# Altium integrated library Cypress Peripheral Bus Interface Controller.IntLib: 40 symbols (part 1 of 3)
Pins are listed as number, name and electrical type; pins without a type are passive.

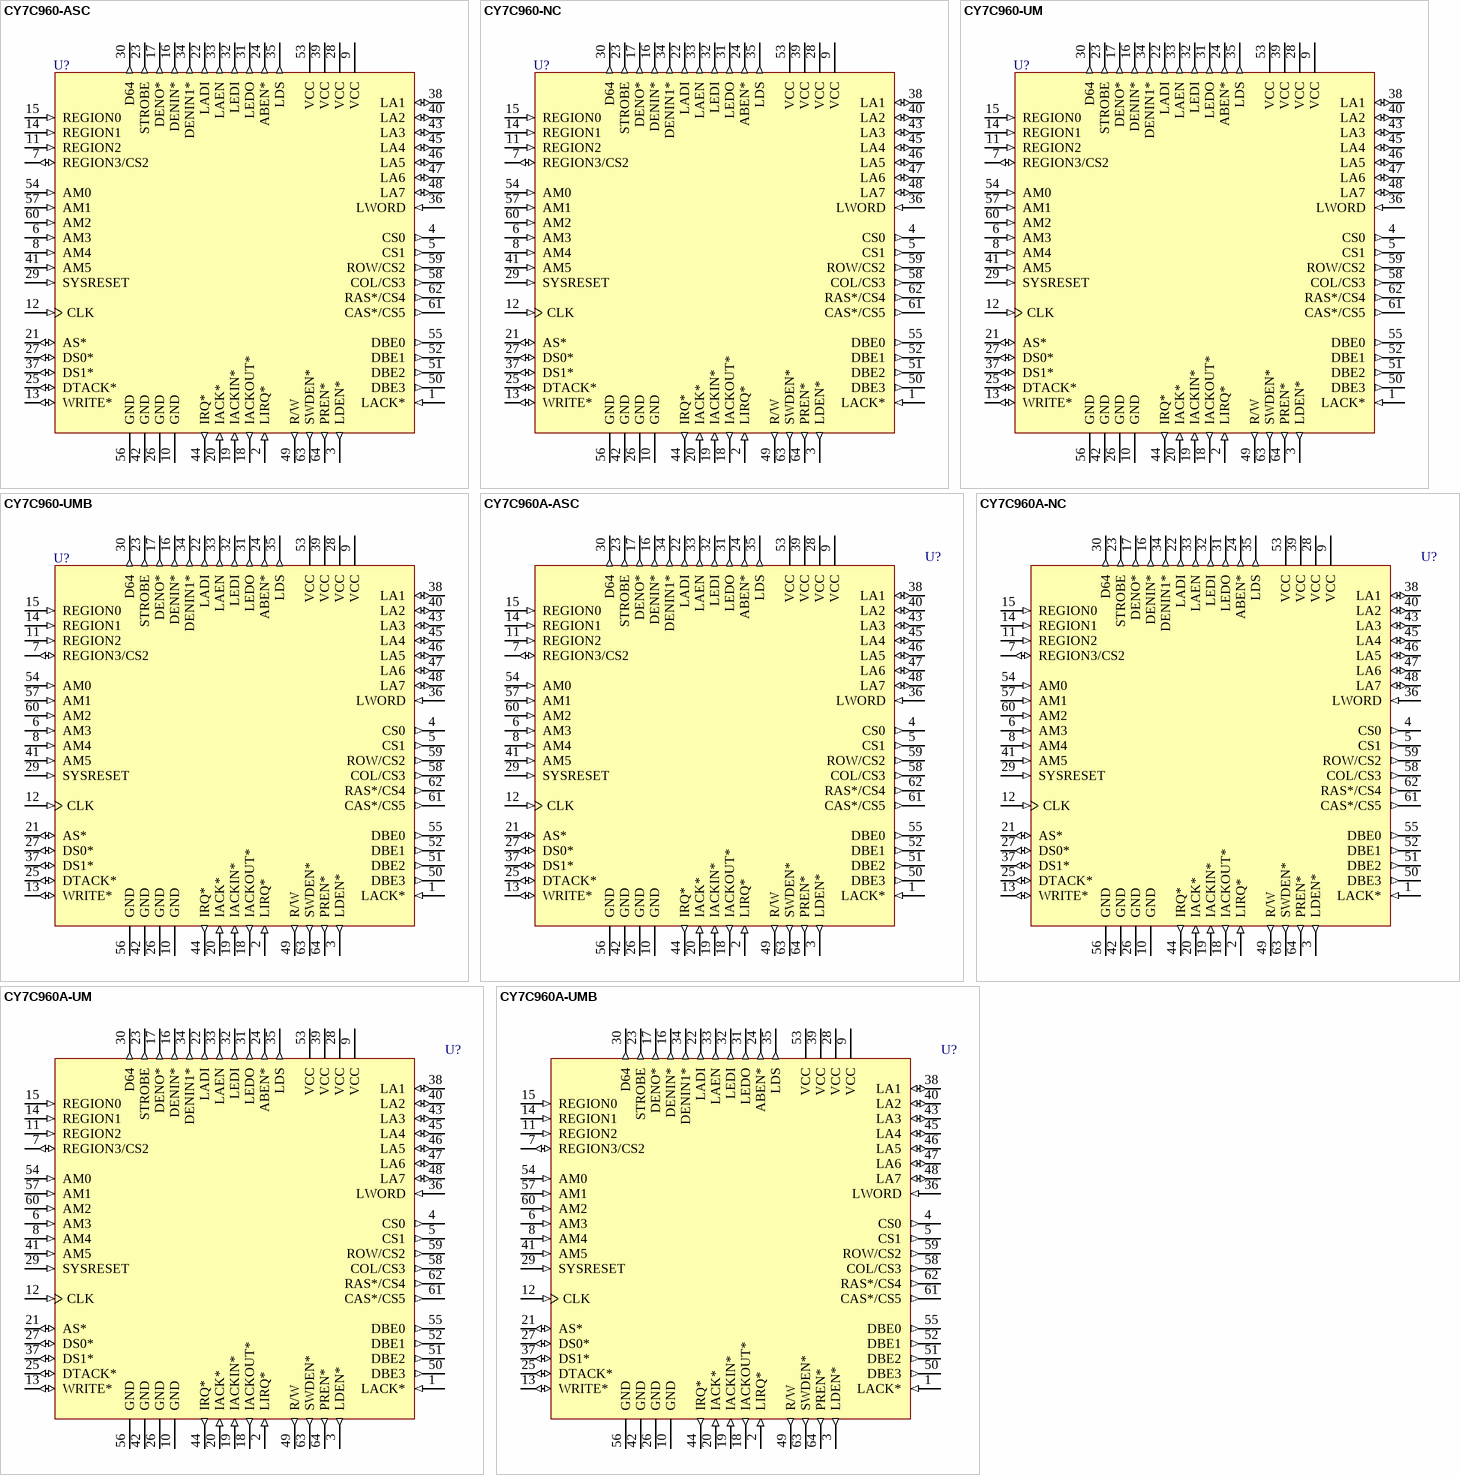
[diagram p0: symbols CY7C960-ASC to CY7C960A-UMB]

## CY7C960-ASC
designator U?
Low Cost VMEbus Interface Controller; Published: 11-Dec-2002; LatestRevisionDate: 13-Apr-2006; LatestRevisionNote: IPC-7351 Footprint Added.; DatasheetVersion: 4-Dec-1997; PackageVersion: Dec-1997; PackageReference: A64; Publisher: Altium Limited; PackageDescription: 64-Pin Thin Quad Flat Pack 0.5 mm Pitch; ComponentLink1Description: Manufacturer Link; ComponentLink1URL: http://www.cypress.com/
footprint A64_N (Thin QFP, 64-Leads, Body 10x10mm, Pitch 0.5mm, IPC Medium Density)
footprint A64_L (Thin QFP, 64-Leads, Body 10x10mm, Pitch 0.5mm, IPC High Density)
footprint A64_M (Thin QFP, 64-Leads, Body 10x10mm, Pitch 0.5mm, IPC Low Density)
3D model CY7C960-A64 (64-Pin Thin Quad Flat Pack 0.5 mm Pitch)
pins: 1 LACK* (in), 2 LIRQ* (in), 3 LDEN* (out), 4 CS0 (out), 5 CS1 (out), 6 AM3 (in), 7 REGION3/CS2 (io), 8 AM4 (in), 9 VCC (power), 10 GND (power), 11 REGION2 (in), 12 CLK (in), 13 WRITE* (io), 14 REGION1 (in), 15 REGION0 (in), 16 DENIN* (out), 17 DENO* (out), 18 IACKOUT* (out), 19 IACKIN* (in), 20 IACK* (in), 21 AS* (io), 22 LADI (out), 23 STROBE (out), 24 ABEN* (out), 25 DTACK* (io), 26 GND (power), 27 DS0* (io), 28 VCC (power), 29 SYSRESET (in), 30 D64 (out), 31 LEDO (out), 32 LEDI (out), 33 LAEN (out), 34 DENIN1* (out), 35 LDS (out), 36 LWORD (in), 37 DS1* (io), 38 LA1 (io), 39 VCC (power), 40 LA2 (io), 41 AM5 (in), 42 GND (power), 43 LA3 (io), 44 IRQ* (out), 45 LA4 (io), 46 LA5 (io), 47 LA6 (io), 48 LA7 (io), 49 R/W (out), 50 DBE3 (out), 51 DBE2 (out), 52 DBE1 (out), 53 VCC (power), 54 AM0 (in), 55 DBE0 (out), 56 GND (power), 57 AM1 (in), 58 COL/CS3 (out), 59 ROW/CS2 (out), 60 AM2 (in), 61 CAS*/CS5 (out), 62 RAS*/CS4 (out), 63 SWDEN* (out), 64 PREN* (out)

## CY7C960-NC
designator U?
Low Cost VMEbus Interface Controller; Published: 11-Dec-2002; LatestRevisionDate: 13-Apr-2006; LatestRevisionNote: IPC-7351 Footprint Added.; DatasheetVersion: 4-Dec-1997; PackageVersion: Dec-1997; PackageReference: N65; Publisher: Altium Limited; PackageDescription: 64-Pin Thin Plastic Quad Flat Pack 0.8 mm Pitch; ComponentLink1Description: Manufacturer Link; ComponentLink1URL: http://www.cypress.com/
footprint N65_N (Thin QFP, 64-Leads, Body 14x14mm, Pitch 0.8mm, IPC Medium Density)
footprint N65_L (Thin QFP, 64-Leads, Body 14x14mm, Pitch 0.8mm, IPC High Density)
footprint N65_M (Thin QFP, 64-Leads, Body 14x14mm, Pitch 0.8mm, IPC Low Density)
3D model CY7C960-N65 (64-Pin Thin Plastic Quad Flat Pack 0.8 mm Pitch)
pins: 1 LACK* (in), 2 LIRQ* (in), 3 LDEN* (out), 4 CS0 (out), 5 CS1 (out), 6 AM3 (in), 7 REGION3/CS2 (io), 8 AM4 (in), 9 VCC (power), 10 GND (power), 11 REGION2 (in), 12 CLK (in), 13 WRITE* (io), 14 REGION1 (in), 15 REGION0 (in), 16 DENIN* (out), 17 DENO* (out), 18 IACKOUT* (out), 19 IACKIN* (in), 20 IACK* (in), 21 AS* (io), 22 LADI (out), 23 STROBE (out), 24 ABEN* (out), 25 DTACK* (io), 26 GND (power), 27 DS0* (io), 28 VCC (power), 29 SYSRESET (in), 30 D64 (out), 31 LEDO (out), 32 LEDI (out), 33 LAEN (out), 34 DENIN1* (out), 35 LDS (out), 36 LWORD (in), 37 DS1* (io), 38 LA1 (io), 39 VCC (power), 40 LA2 (io), 41 AM5 (in), 42 GND (power), 43 LA3 (io), 44 IRQ* (out), 45 LA4 (io), 46 LA5 (io), 47 LA6 (io), 48 LA7 (io), 49 R/W (out), 50 DBE3 (out), 51 DBE2 (out), 52 DBE1 (out), 53 VCC (power), 54 AM0 (in), 55 DBE0 (out), 56 GND (power), 57 AM1 (in), 58 COL/CS3 (out), 59 ROW/CS2 (out), 60 AM2 (in), 61 CAS*/CS5 (out), 62 RAS*/CS4 (out), 63 SWDEN* (out), 64 PREN* (out)

## CY7C960-UM
designator U?
Low Cost VMEbus Interface Controller; Published: 11-Dec-2002; LatestRevisionDate: 13-Apr-2006; LatestRevisionNote: IPC-7351 Footprint Added.; DatasheetVersion: 4-Dec-1997; PackageVersion: Dec-1997; PackageReference: U65; Publisher: Altium Limited; PackageDescription: 64-Pin Ceramic Cavity Up Quad Flat Pack 0.8 mm Pitch; ComponentLink1Description: Manufacturer Link; ComponentLink1URL: http://www.cypress.com/
footprint U65_N (QFP, 64-Leads, Body 14x14mm, Pitch 0.8mm, IPC Medium Density)
footprint U65_L (QFP, 64-Leads, Body 14x14mm, Pitch 0.8mm, IPC High Density)
footprint U65_M (QFP, 64-Leads, Body 14x14mm, Pitch 0.8mm, IPC Low Density)
3D model CY7C960-U65 (64-Pin Ceramic Cavity Up Quad Flat Pack 0.8 mm Pitch)
pins: 1 LACK* (in), 2 LIRQ* (in), 3 LDEN* (out), 4 CS0 (out), 5 CS1 (out), 6 AM3 (in), 7 REGION3/CS2 (io), 8 AM4 (in), 9 VCC (power), 10 GND (power), 11 REGION2 (in), 12 CLK (in), 13 WRITE* (io), 14 REGION1 (in), 15 REGION0 (in), 16 DENIN* (out), 17 DENO* (out), 18 IACKOUT* (out), 19 IACKIN* (in), 20 IACK* (in), 21 AS* (io), 22 LADI (out), 23 STROBE (out), 24 ABEN* (out), 25 DTACK* (io), 26 GND (power), 27 DS0* (io), 28 VCC (power), 29 SYSRESET (in), 30 D64 (out), 31 LEDO (out), 32 LEDI (out), 33 LAEN (out), 34 DENIN1* (out), 35 LDS (out), 36 LWORD (in), 37 DS1* (io), 38 LA1 (io), 39 VCC (power), 40 LA2 (io), 41 AM5 (in), 42 GND (power), 43 LA3 (io), 44 IRQ* (out), 45 LA4 (io), 46 LA5 (io), 47 LA6 (io), 48 LA7 (io), 49 R/W (out), 50 DBE3 (out), 51 DBE2 (out), 52 DBE1 (out), 53 VCC (power), 54 AM0 (in), 55 DBE0 (out), 56 GND (power), 57 AM1 (in), 58 COL/CS3 (out), 59 ROW/CS2 (out), 60 AM2 (in), 61 CAS*/CS5 (out), 62 RAS*/CS4 (out), 63 SWDEN* (out), 64 PREN* (out)

## CY7C960-UMB
designator U?
Low Cost VMEbus Interface Controller; Published: 11-Dec-2002; LatestRevisionDate: 13-Apr-2006; LatestRevisionNote: IPC-7351 Footprint Added.; DatasheetVersion: 4-Dec-1997; PackageVersion: Dec-1997; PackageReference: U65; Publisher: Altium Limited; PackageDescription: 64-Pin Ceramic Cavity Up Quad Flat Pack 0.8 mm Pitch; ComponentLink1Description: Manufacturer Link; ComponentLink1URL: http://www.cypress.com/
footprint U65_N (QFP, 64-Leads, Body 14x14mm, Pitch 0.8mm, IPC Medium Density)
footprint U65_L (QFP, 64-Leads, Body 14x14mm, Pitch 0.8mm, IPC High Density)
footprint U65_M (QFP, 64-Leads, Body 14x14mm, Pitch 0.8mm, IPC Low Density)
3D model CY7C960-U65 (64-Pin Ceramic Cavity Up Quad Flat Pack 0.8 mm Pitch)
pins: 1 LACK* (in), 2 LIRQ* (in), 3 LDEN* (out), 4 CS0 (out), 5 CS1 (out), 6 AM3 (in), 7 REGION3/CS2 (io), 8 AM4 (in), 9 VCC (power), 10 GND (power), 11 REGION2 (in), 12 CLK (in), 13 WRITE* (io), 14 REGION1 (in), 15 REGION0 (in), 16 DENIN* (out), 17 DENO* (out), 18 IACKOUT* (out), 19 IACKIN* (in), 20 IACK* (in), 21 AS* (io), 22 LADI (out), 23 STROBE (out), 24 ABEN* (out), 25 DTACK* (io), 26 GND (power), 27 DS0* (io), 28 VCC (power), 29 SYSRESET (in), 30 D64 (out), 31 LEDO (out), 32 LEDI (out), 33 LAEN (out), 34 DENIN1* (out), 35 LDS (out), 36 LWORD (in), 37 DS1* (io), 38 LA1 (io), 39 VCC (power), 40 LA2 (io), 41 AM5 (in), 42 GND (power), 43 LA3 (io), 44 IRQ* (out), 45 LA4 (io), 46 LA5 (io), 47 LA6 (io), 48 LA7 (io), 49 R/W (out), 50 DBE3 (out), 51 DBE2 (out), 52 DBE1 (out), 53 VCC (power), 54 AM0 (in), 55 DBE0 (out), 56 GND (power), 57 AM1 (in), 58 COL/CS3 (out), 59 ROW/CS2 (out), 60 AM2 (in), 61 CAS*/CS5 (out), 62 RAS*/CS4 (out), 63 SWDEN* (out), 64 PREN* (out)

## CY7C960A-ASC
designator U?
Low Cost VMEbus Interface Controller; Published: 11-Dec-2002; LatestRevisionDate: 13-Apr-2006; LatestRevisionNote: IPC-7351 Footprint Added.; DatasheetVersion: 5-Sep-2000; PackageVersion: Dec-1997; PackageReference: A64; Publisher: Altium Limited; PackageDescription: 64-Pin Thin Quad Flat Pack 0.5 mm Pitch; ComponentLink1Description: Manufacturer Link; ComponentLink1URL: http://www.cypress.com/
footprint A64_N (Thin QFP, 64-Leads, Body 10x10mm, Pitch 0.5mm, IPC Medium Density)
footprint A64_L (Thin QFP, 64-Leads, Body 10x10mm, Pitch 0.5mm, IPC High Density)
footprint A64_M (Thin QFP, 64-Leads, Body 10x10mm, Pitch 0.5mm, IPC Low Density)
3D model CY7C960A-A64 (64-Pin Thin Quad Flat Pack 0.5 mm Pitch)
pins: 1 LACK* (in), 2 LIRQ* (in), 3 LDEN* (out), 4 CS0 (out), 5 CS1 (out), 6 AM3 (in), 7 REGION3/CS2 (io), 8 AM4 (in), 9 VCC (power), 10 GND (power), 11 REGION2 (in), 12 CLK (in), 13 WRITE* (io), 14 REGION1 (in), 15 REGION0 (in), 16 DENIN* (out), 17 DENO* (out), 18 IACKOUT* (out), 19 IACKIN* (in), 20 IACK* (in), 21 AS* (io), 22 LADI (out), 23 STROBE (out), 24 ABEN* (out), 25 DTACK* (io), 26 GND (power), 27 DS0* (io), 28 VCC (power), 29 SYSRESET (in), 30 D64 (out), 31 LEDO (out), 32 LEDI (out), 33 LAEN (out), 34 DENIN1* (out), 35 LDS (out), 36 LWORD (in), 37 DS1* (io), 38 LA1 (io), 39 VCC (power), 40 LA2 (io), 41 AM5 (in), 42 GND (power), 43 LA3 (io), 44 IRQ* (out), 45 LA4 (io), 46 LA5 (io), 47 LA6 (io), 48 LA7 (io), 49 R/W (out), 50 DBE3 (out), 51 DBE2 (out), 52 DBE1 (out), 53 VCC (power), 54 AM0 (in), 55 DBE0 (out), 56 GND (power), 57 AM1 (in), 58 COL/CS3 (out), 59 ROW/CS2 (out), 60 AM2 (in), 61 CAS*/CS5 (out), 62 RAS*/CS4 (out), 63 SWDEN* (out), 64 PREN* (out)

## CY7C960A-NC
designator U?
Low Cost VMEbus Interface Controller; Published: 11-Dec-2002; LatestRevisionDate: 13-Apr-2006; LatestRevisionNote: IPC-7351 Footprint Added.; DatasheetVersion: 5-Sep-2000; PackageVersion: Dec-1997; PackageReference: N65; Publisher: Altium Limited; PackageDescription: 64-Pin Thin Plastic Quad Flat Pack 0.8 mm Pitch; ComponentLink1Description: Manufacturer Link; ComponentLink1URL: http://www.cypress.com/
footprint N65_N (Thin QFP, 64-Leads, Body 14x14mm, Pitch 0.8mm, IPC Medium Density)
footprint N65_L (Thin QFP, 64-Leads, Body 14x14mm, Pitch 0.8mm, IPC High Density)
footprint N65_M (Thin QFP, 64-Leads, Body 14x14mm, Pitch 0.8mm, IPC Low Density)
3D model CY7C960A-N65 (64-Pin Thin Plastic Quad Flat Pack 0.8 mm Pitch)
pins: 1 LACK* (in), 2 LIRQ* (in), 3 LDEN* (out), 4 CS0 (out), 5 CS1 (out), 6 AM3 (in), 7 REGION3/CS2 (io), 8 AM4 (in), 9 VCC (power), 10 GND (power), 11 REGION2 (in), 12 CLK (in), 13 WRITE* (io), 14 REGION1 (in), 15 REGION0 (in), 16 DENIN* (out), 17 DENO* (out), 18 IACKOUT* (out), 19 IACKIN* (in), 20 IACK* (in), 21 AS* (io), 22 LADI (out), 23 STROBE (out), 24 ABEN* (out), 25 DTACK* (io), 26 GND (power), 27 DS0* (io), 28 VCC (power), 29 SYSRESET (in), 30 D64 (out), 31 LEDO (out), 32 LEDI (out), 33 LAEN (out), 34 DENIN1* (out), 35 LDS (out), 36 LWORD (in), 37 DS1* (io), 38 LA1 (io), 39 VCC (power), 40 LA2 (io), 41 AM5 (in), 42 GND (power), 43 LA3 (io), 44 IRQ* (out), 45 LA4 (io), 46 LA5 (io), 47 LA6 (io), 48 LA7 (io), 49 R/W (out), 50 DBE3 (out), 51 DBE2 (out), 52 DBE1 (out), 53 VCC (power), 54 AM0 (in), 55 DBE0 (out), 56 GND (power), 57 AM1 (in), 58 COL/CS3 (out), 59 ROW/CS2 (out), 60 AM2 (in), 61 CAS*/CS5 (out), 62 RAS*/CS4 (out), 63 SWDEN* (out), 64 PREN* (out)

## CY7C960A-UM
designator U?
Low Cost VMEbus Interface Controller; Published: 11-Dec-2002; LatestRevisionDate: 13-Apr-2006; LatestRevisionNote: IPC-7351 Footprint Added.; DatasheetVersion: 5-Sep-2000; PackageVersion: Dec-1997; PackageReference: U65; Publisher: Altium Limited; PackageDescription: 64-Pin Ceramic Cavity Up Quad Flat Pack 0.8 mm Pitch; ComponentLink1Description: Manufacturer Link; ComponentLink1URL: http://www.cypress.com/
footprint U65_N (QFP, 64-Leads, Body 14x14mm, Pitch 0.8mm, IPC Medium Density)
footprint U65_L (QFP, 64-Leads, Body 14x14mm, Pitch 0.8mm, IPC High Density)
footprint U65_M (QFP, 64-Leads, Body 14x14mm, Pitch 0.8mm, IPC Low Density)
3D model CY7C960A-U65 (64-Pin Ceramic Cavity Up Quad Flat Pack 0.8 mm Pitch)
pins: 1 LACK* (in), 2 LIRQ* (in), 3 LDEN* (out), 4 CS0 (out), 5 CS1 (out), 6 AM3 (in), 7 REGION3/CS2 (io), 8 AM4 (in), 9 VCC (power), 10 GND (power), 11 REGION2 (in), 12 CLK (in), 13 WRITE* (io), 14 REGION1 (in), 15 REGION0 (in), 16 DENIN* (out), 17 DENO* (out), 18 IACKOUT* (out), 19 IACKIN* (in), 20 IACK* (in), 21 AS* (io), 22 LADI (out), 23 STROBE (out), 24 ABEN* (out), 25 DTACK* (io), 26 GND (power), 27 DS0* (io), 28 VCC (power), 29 SYSRESET (in), 30 D64 (out), 31 LEDO (out), 32 LEDI (out), 33 LAEN (out), 34 DENIN1* (out), 35 LDS (out), 36 LWORD (in), 37 DS1* (io), 38 LA1 (io), 39 VCC (power), 40 LA2 (io), 41 AM5 (in), 42 GND (power), 43 LA3 (io), 44 IRQ* (out), 45 LA4 (io), 46 LA5 (io), 47 LA6 (io), 48 LA7 (io), 49 R/W (out), 50 DBE3 (out), 51 DBE2 (out), 52 DBE1 (out), 53 VCC (power), 54 AM0 (in), 55 DBE0 (out), 56 GND (power), 57 AM1 (in), 58 COL/CS3 (out), 59 ROW/CS2 (out), 60 AM2 (in), 61 CAS*/CS5 (out), 62 RAS*/CS4 (out), 63 SWDEN* (out), 64 PREN* (out)

## CY7C960A-UMB
designator U?
Low Cost VMEbus Interface Controller; Published: 11-Dec-2002; LatestRevisionDate: 13-Apr-2006; LatestRevisionNote: IPC-7351 Footprint Added.; DatasheetVersion: 5-Sep-2000; PackageVersion: Dec-1997; PackageReference: U65; Publisher: Altium Limited; PackageDescription: 64-Pin Ceramic Cavity Up Quad Flat Pack 0.8 mm Pitch; ComponentLink1Description: Manufacturer Link; ComponentLink1URL: http://www.cypress.com/
footprint U65_N (QFP, 64-Leads, Body 14x14mm, Pitch 0.8mm, IPC Medium Density)
footprint U65_L (QFP, 64-Leads, Body 14x14mm, Pitch 0.8mm, IPC High Density)
footprint U65_M (QFP, 64-Leads, Body 14x14mm, Pitch 0.8mm, IPC Low Density)
3D model CY7C960A-U65 (64-Pin Ceramic Cavity Up Quad Flat Pack 0.8 mm Pitch)
pins: 1 LACK* (in), 2 LIRQ* (in), 3 LDEN* (out), 4 CS0 (out), 5 CS1 (out), 6 AM3 (in), 7 REGION3/CS2 (io), 8 AM4 (in), 9 VCC (power), 10 GND (power), 11 REGION2 (in), 12 CLK (in), 13 WRITE* (io), 14 REGION1 (in), 15 REGION0 (in), 16 DENIN* (out), 17 DENO* (out), 18 IACKOUT* (out), 19 IACKIN* (in), 20 IACK* (in), 21 AS* (io), 22 LADI (out), 23 STROBE (out), 24 ABEN* (out), 25 DTACK* (io), 26 GND (power), 27 DS0* (io), 28 VCC (power), 29 SYSRESET (in), 30 D64 (out), 31 LEDO (out), 32 LEDI (out), 33 LAEN (out), 34 DENIN1* (out), 35 LDS (out), 36 LWORD (in), 37 DS1* (io), 38 LA1 (io), 39 VCC (power), 40 LA2 (io), 41 AM5 (in), 42 GND (power), 43 LA3 (io), 44 IRQ* (out), 45 LA4 (io), 46 LA5 (io), 47 LA6 (io), 48 LA7 (io), 49 R/W (out), 50 DBE3 (out), 51 DBE2 (out), 52 DBE1 (out), 53 VCC (power), 54 AM0 (in), 55 DBE0 (out), 56 GND (power), 57 AM1 (in), 58 COL/CS3 (out), 59 ROW/CS2 (out), 60 AM2 (in), 61 CAS*/CS5 (out), 62 RAS*/CS4 (out), 63 SWDEN* (out), 64 PREN* (out)

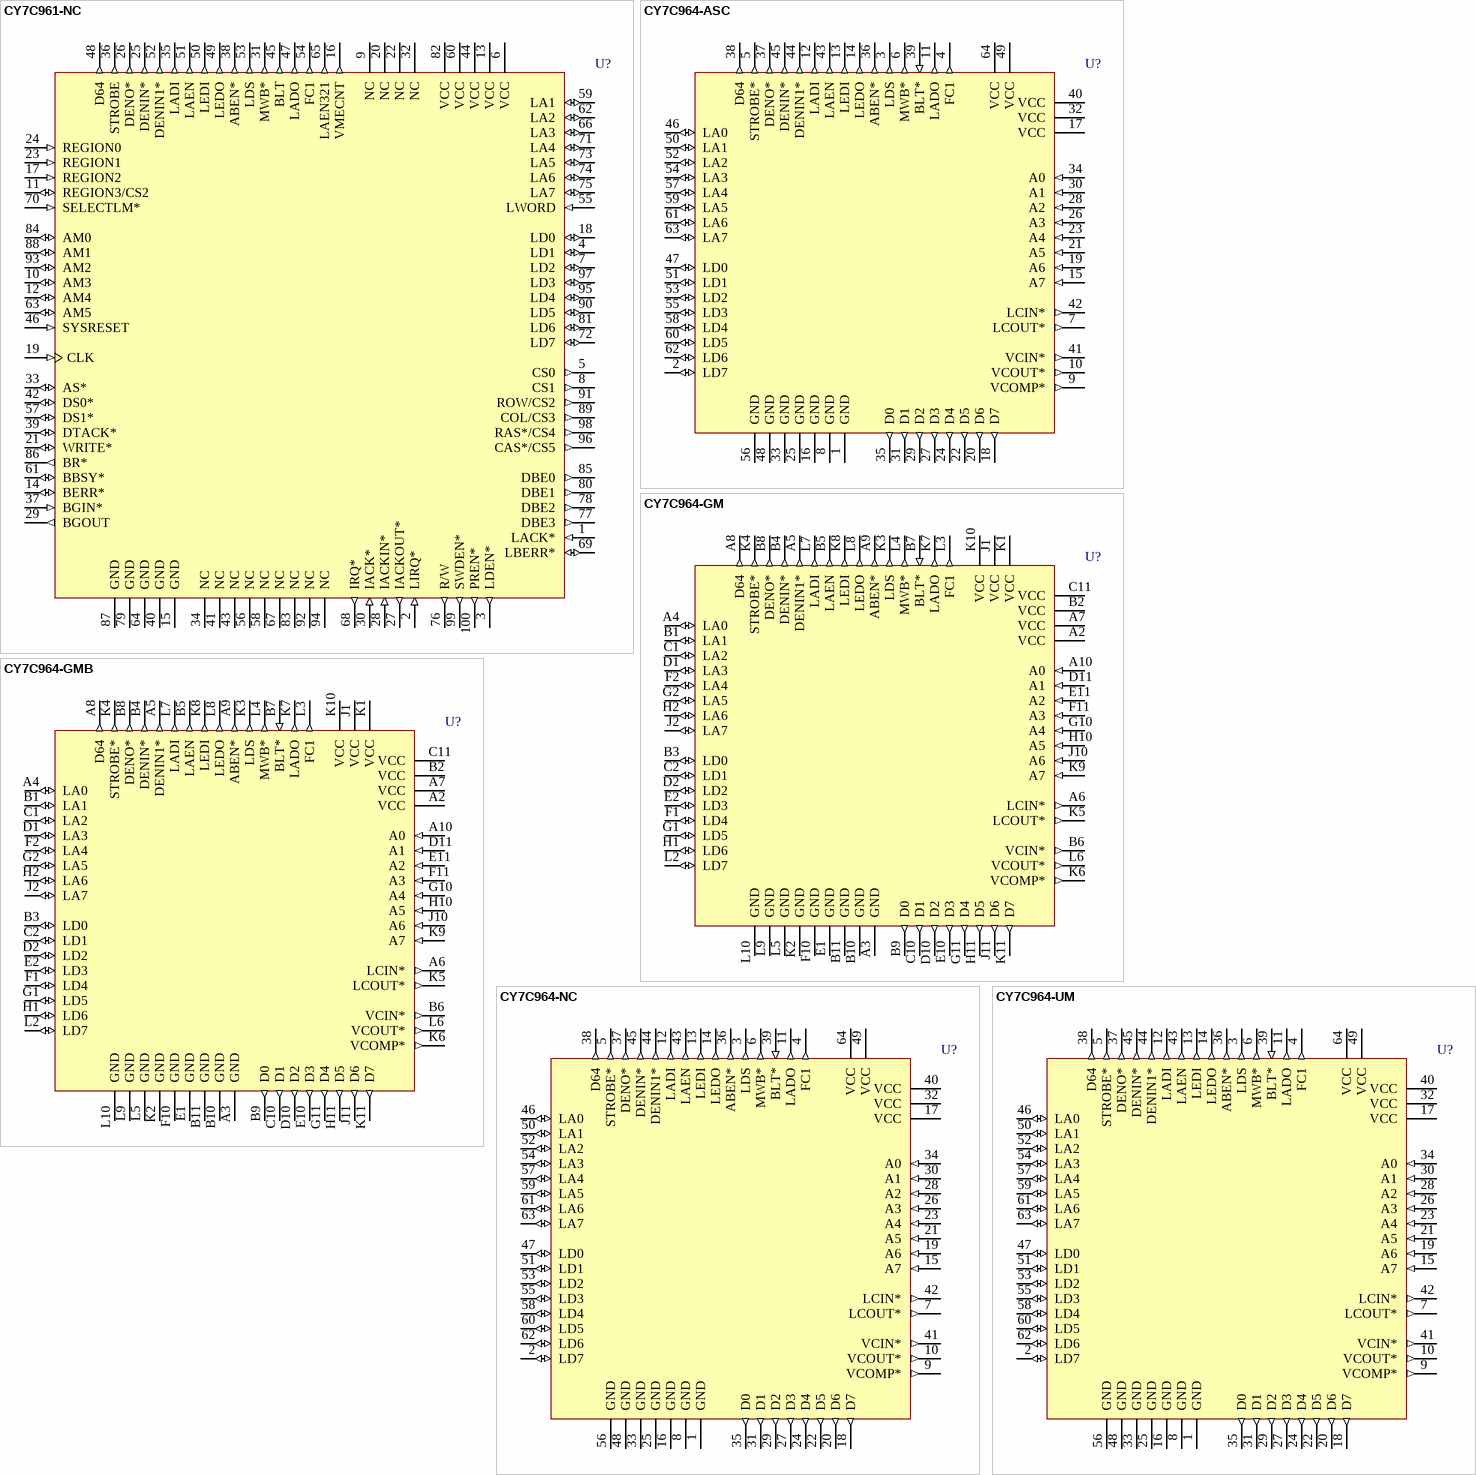
[diagram p1: symbols CY7C961-NC to CY7C964-UM]

## CY7C961-NC
designator U?
Low Cost VMEbus Interface Controller; Published: 11-Dec-2002; LatestRevisionDate: 13-Apr-2006; LatestRevisionNote: IPC-7351 Footprint Added.; DatasheetVersion: 4-Dec-1997; PackageVersion: Mar-2001; PackageReference: A100; Publisher: Altium Limited; PackageDescription: 100-Pin Thin Quad Flat Pack 0.5 mm Pitch; ComponentLink1Description: Manufacturer Link; ComponentLink1URL: http://www.cypress.com/
footprint A100_N (Thin QFP, 100-Leads, Body 14x14mm, Pitch 0.5mm, IPC Medium Density)
footprint A100_L (Thin QFP, 100-Leads, Body 14x14mm, Pitch 0.5mm, IPC High Density)
footprint A100_M (Thin QFP, 100-Leads, Body 14x14mm, Pitch 0.5mm, IPC Low Density)
3D model CY7C961-A100 (100-Pin Thin Quad Flat Pack 0.5 mm Pitch)
pins: 1 LACK* (in), 2 LIRQ* (in), 3 LDEN* (out), 4 LD1 (io), 5 CS0 (out), 6 VCC (power), 7 LD2 (io), 8 CS1 (out), 9 NC, 10 AM3 (io), 11 REGION3/CS2 (io), 12 AM4 (io), 13 VCC (power), 14 BERR* (io), 15 GND (power), 16 VMECNT (out), 17 REGION2 (in), 18 LD0 (io), 19 CLK (in), 20 NC, 21 WRITE* (io), 22 NC, 23 REGION1 (in), 24 REGION0 (in), 25 DENIN* (out), 26 DENO* (out), 27 IACKOUT* (out), 28 IACKIN* (in), 29 BGOUT (out), 30 IACK* (in), 31 MWB* (out), 32 NC, 33 AS* (io), 34 NC, 35 LADI (out), 36 STROBE (out), 37 BGIN* (in), 38 ABEN* (out), 39 DTACK* (io), 40 GND (power), 41 NC, 42 DS0* (io), 43 NC, 44 VCC (power), 45 BLT (out), 46 SYSRESET (in), 47 LADO (out), 48 D64 (out), 49 LEDO (out), 50 LEDI (out), 51 LAEN (out), 52 DENIN1* (out), 53 LDS (out), 54 FC1 (out), 55 LWORD (in), 56 NC, 57 DS1* (io), 58 NC, 59 LA1 (io), 60 VCC (power), 61 BBSY* (io), 62 LA2 (io), 63 AM5 (io), 64 GND (power), 65 LAEN321 (out), 66 LA3 (io), 67 NC, 68 IRQ* (out), 69 LBERR* (io), 70 SELECTLM* (in), 71 LA4 (io), 72 LD7 (io), 73 LA5 (io), 74 LA6 (io), 75 LA7 (io), 76 R/W (out), 77 DBE3 (out), 78 DBE2 (out), 79 GND (power), 80 DBE1 (out), 81 LD6 (io), 82 VCC (power), 83 NC, 84 AM0 (io), 85 DBE0 (out), 86 BR* (out), 87 GND (power), 88 AM1 (io), 89 COL/CS3 (out), 90 LD5 (io), 91 ROW/CS2 (out), 92 NC, 93 AM2 (io), 94 NC, 95 LD4 (io), 96 CAS*/CS5 (out), 97 LD3 (io), 98 RAS*/CS4 (out), 99 SWDEN* (out), 100 PREN* (out)

## CY7C964-ASC
designator U?
Bus Interface Logic Circuit; Published: 11-Dec-2002; LatestRevisionDate: 13-Apr-2006; LatestRevisionNote: IPC-7351 Footprint Added.; DatasheetVersion: 4-Dec-1997; PackageVersion: Dec-1997; PackageReference: A64; Publisher: Altium Limited; PackageDescription: 64-Pin Thin Quad Flat Pack 0.5 mm Pitch; ComponentLink1Description: Manufacturer Link; ComponentLink1URL: http://www.cypress.com/
footprint A64_N (Thin QFP, 64-Leads, Body 10x10mm, Pitch 0.5mm, IPC Medium Density)
footprint A64_L (Thin QFP, 64-Leads, Body 10x10mm, Pitch 0.5mm, IPC High Density)
footprint A64_M (Thin QFP, 64-Leads, Body 10x10mm, Pitch 0.5mm, IPC Low Density)
3D model CY7C964-A64 (64-Pin Thin Quad Flat Pack 0.5 mm Pitch)
pins: 1 GND (power), 2 LD7 (io), 3 LDS (out), 4 FC1 (out), 5 STROBE* (out), 6 MWB* (out), 7 LCOUT* (out), 8 GND (power), 9 VCOMP* (out), 10 VCOUT* (out), 11 LADO (out), 12 LADI (out), 13 LEDI (out), 14 LEDO (out), 15 A7 (in), 16 GND (power), 17 VCC (power), 18 D7 (out), 19 A6 (in), 20 D6 (out), 21 A5 (in), 22 D5 (out), 23 A4 (in), 24 D4 (out), 25 GND (power), 26 A3 (in), 27 D3 (out), 28 A2 (in), 29 D2 (out), 30 A1 (in), 31 D1 (out), 32 VCC (power), 33 GND (power), 34 A0 (in), 35 D0 (out), 36 ABEN* (out), 37 DENO* (out), 38 D64 (out), 39 BLT* (in), 40 VCC (power), 41 VCIN* (out), 42 LCIN* (out), 43 LAEN (out), 44 DENIN1* (out), 45 DENIN* (out), 46 LA0 (io), 47 LD0 (io), 48 GND (power), 49 VCC (power), 50 LA1 (io), 51 LD1 (io), 52 LA2 (io), 53 LD2 (io), 54 LA3 (io), 55 LD3 (io), 56 GND (power), 57 LA4 (io), 58 LD4 (io), 59 LA5 (io), 60 LD5 (io), 61 LA6 (io), 62 LD6 (io), 63 LA7 (io), 64 VCC (power)

## CY7C964-GM
designator U?
Bus Interface Logic Circuit; Published: 11-Dec-2002; LatestRevisionDate: 04-Mar-2005; LatestRevisionNote: Stylized 3D Model Added.; DatasheetVersion: 4-Dec-1997; PackageVersion: Dec-1997; PackageReference: G68; Publisher: Altium Limited; PackageDescription: 68-Pin Pin Grid Array 2.54 mm Pitch; ComponentLink1Description: Manufacturer Link; ComponentLink1URL: http://www.cypress.com/
footprint G68 (PGA, 68-Leads, Body 28x28mm, Pitch 2.54mm)
3D model CY7C964-G68 (68-Pin Pin Grid Array 2.54 mm Pitch)
pins: A2 VCC (power), A3 GND (power), A4 LA0 (io), A5 DENIN1* (out), A6 LCIN* (out), A7 VCC (power), A8 D64 (out), A9 ABEN* (out), A10 A0 (in), B1 LA1 (io), B2 VCC (power), B3 LD0 (io), B4 DENIN* (out), B5 LAEN (out), B6 VCIN* (out), B7 BLT* (in), B8 DENO* (out), B9 D0 (out), B10 GND (power), B11 GND (power), C1 LA2 (io), C2 LD1 (io), C10 D1 (out), C11 VCC (power), D1 LA3 (io), D2 LD2 (io), D10 D2 (out), D11 A1 (in), E1 GND (power), E2 LD3 (io), E10 D3 (out), E11 A2 (in), F1 LD4 (io), F2 LA4 (io), F10 GND (power), F11 A3 (in), G1 LD5 (io), G2 LA5 (io), G10 A4 (in), G11 D4 (out), H1 LD6 (io), H2 LA6 (io), H10 A5 (in), H11 D5 (out), J1 VCC (power), J2 LA7 (io), J10 A6 (in), J11 D6 (out), K1 VCC (power), K2 GND (power), K3 LDS (out), K4 STROBE* (out), K5 LCOUT* (out), K6 VCOMP* (out), K7 LADO (out), K8 LEDI (out), K9 A7 (in), K10 VCC (power), K11 D7 (out), L2 LD7 (io), L3 FC1 (out), L4 MWB* (out), L5 GND (power), L6 VCOUT* (out), L7 LADI (out), L8 LEDO (out), L9 GND (power), L10 GND (power)

## CY7C964-GMB
designator U?
Bus Interface Logic Circuit; Published: 11-Dec-2002; LatestRevisionDate: 04-Mar-2005; LatestRevisionNote: Stylized 3D Model Added.; DatasheetVersion: 4-Dec-1997; PackageVersion: Dec-1997; PackageReference: G68; Publisher: Altium Limited; PackageDescription: 68-Pin Pin Grid Array 2.54 mm Pitch; ComponentLink1Description: Manufacturer Link; ComponentLink1URL: http://www.cypress.com/
footprint G68 (PGA, 68-Leads, Body 28x28mm, Pitch 2.54mm)
3D model CY7C964-G68 (68-Pin Pin Grid Array 2.54 mm Pitch)
pins: A2 VCC (power), A3 GND (power), A4 LA0 (io), A5 DENIN1* (out), A6 LCIN* (out), A7 VCC (power), A8 D64 (out), A9 ABEN* (out), A10 A0 (in), B1 LA1 (io), B2 VCC (power), B3 LD0 (io), B4 DENIN* (out), B5 LAEN (out), B6 VCIN* (out), B7 BLT* (in), B8 DENO* (out), B9 D0 (out), B10 GND (power), B11 GND (power), C1 LA2 (io), C2 LD1 (io), C10 D1 (out), C11 VCC (power), D1 LA3 (io), D2 LD2 (io), D10 D2 (out), D11 A1 (in), E1 GND (power), E2 LD3 (io), E10 D3 (out), E11 A2 (in), F1 LD4 (io), F2 LA4 (io), F10 GND (power), F11 A3 (in), G1 LD5 (io), G2 LA5 (io), G10 A4 (in), G11 D4 (out), H1 LD6 (io), H2 LA6 (io), H10 A5 (in), H11 D5 (out), J1 VCC (power), J2 LA7 (io), J10 A6 (in), J11 D6 (out), K1 VCC (power), K2 GND (power), K3 LDS (out), K4 STROBE* (out), K5 LCOUT* (out), K6 VCOMP* (out), K7 LADO (out), K8 LEDI (out), K9 A7 (in), K10 VCC (power), K11 D7 (out), L2 LD7 (io), L3 FC1 (out), L4 MWB* (out), L5 GND (power), L6 VCOUT* (out), L7 LADI (out), L8 LEDO (out), L9 GND (power), L10 GND (power)

## CY7C964-NC
designator U?
Bus Interface Logic Circuit; Published: 11-Dec-2002; LatestRevisionDate: 13-Apr-2006; LatestRevisionNote: IPC-7351 Footprint Added.; DatasheetVersion: 4-Dec-1997; PackageVersion: Dec-1997; PackageReference: N65; Publisher: Altium Limited; PackageDescription: 64-Pin Thin Plastic Quad Flat Pack 0.8 mm Pitch; ComponentLink1Description: Manufacturer Link; ComponentLink1URL: http://www.cypress.com/
footprint N65_N (Thin QFP, 64-Leads, Body 14x14mm, Pitch 0.8mm, IPC Medium Density)
footprint N65_L (Thin QFP, 64-Leads, Body 14x14mm, Pitch 0.8mm, IPC High Density)
footprint N65_M (Thin QFP, 64-Leads, Body 14x14mm, Pitch 0.8mm, IPC Low Density)
3D model CY7C964-N65 (64-Pin Thin Plastic Quad Flat Pack 0.8 mm Pitch)
pins: 1 GND (power), 2 LD7 (io), 3 LDS (out), 4 FC1 (out), 5 STROBE* (out), 6 MWB* (out), 7 LCOUT* (out), 8 GND (power), 9 VCOMP* (out), 10 VCOUT* (out), 11 LADO (out), 12 LADI (out), 13 LEDI (out), 14 LEDO (out), 15 A7 (in), 16 GND (power), 17 VCC (power), 18 D7 (out), 19 A6 (in), 20 D6 (out), 21 A5 (in), 22 D5 (out), 23 A4 (in), 24 D4 (out), 25 GND (power), 26 A3 (in), 27 D3 (out), 28 A2 (in), 29 D2 (out), 30 A1 (in), 31 D1 (out), 32 VCC (power), 33 GND (power), 34 A0 (in), 35 D0 (out), 36 ABEN* (out), 37 DENO* (out), 38 D64 (out), 39 BLT* (in), 40 VCC (power), 41 VCIN* (out), 42 LCIN* (out), 43 LAEN (out), 44 DENIN1* (out), 45 DENIN* (out), 46 LA0 (io), 47 LD0 (io), 48 GND (power), 49 VCC (power), 50 LA1 (io), 51 LD1 (io), 52 LA2 (io), 53 LD2 (io), 54 LA3 (io), 55 LD3 (io), 56 GND (power), 57 LA4 (io), 58 LD4 (io), 59 LA5 (io), 60 LD5 (io), 61 LA6 (io), 62 LD6 (io), 63 LA7 (io), 64 VCC (power)

## CY7C964-UM
designator U?
Bus Interface Logic Circuit; Published: 11-Dec-2002; LatestRevisionDate: 13-Apr-2006; LatestRevisionNote: IPC-7351 Footprint Added.; DatasheetVersion: 4-Dec-1997; PackageVersion: Dec-1997; PackageReference: U65; Publisher: Altium Limited; PackageDescription: 64-Pin Ceramic Cavity Up Quad Flat Pack 0.8 mm Pitch; ComponentLink1Description: Manufacturer Link; ComponentLink1URL: http://www.cypress.com/
footprint U65_N (QFP, 64-Leads, Body 14x14mm, Pitch 0.8mm, IPC Medium Density)
footprint U65_L (QFP, 64-Leads, Body 14x14mm, Pitch 0.8mm, IPC High Density)
footprint U65_M (QFP, 64-Leads, Body 14x14mm, Pitch 0.8mm, IPC Low Density)
3D model CY7C964-U65 (64-Pin Ceramic Cavity Up Quad Flat Pack 0.8 mm Pitch)
pins: 1 GND (power), 2 LD7 (io), 3 LDS (out), 4 FC1 (out), 5 STROBE* (out), 6 MWB* (out), 7 LCOUT* (out), 8 GND (power), 9 VCOMP* (out), 10 VCOUT* (out), 11 LADO (out), 12 LADI (out), 13 LEDI (out), 14 LEDO (out), 15 A7 (in), 16 GND (power), 17 VCC (power), 18 D7 (out), 19 A6 (in), 20 D6 (out), 21 A5 (in), 22 D5 (out), 23 A4 (in), 24 D4 (out), 25 GND (power), 26 A3 (in), 27 D3 (out), 28 A2 (in), 29 D2 (out), 30 A1 (in), 31 D1 (out), 32 VCC (power), 33 GND (power), 34 A0 (in), 35 D0 (out), 36 ABEN* (out), 37 DENO* (out), 38 D64 (out), 39 BLT* (in), 40 VCC (power), 41 VCIN* (out), 42 LCIN* (out), 43 LAEN (out), 44 DENIN1* (out), 45 DENIN* (out), 46 LA0 (io), 47 LD0 (io), 48 GND (power), 49 VCC (power), 50 LA1 (io), 51 LD1 (io), 52 LA2 (io), 53 LD2 (io), 54 LA3 (io), 55 LD3 (io), 56 GND (power), 57 LA4 (io), 58 LD4 (io), 59 LA5 (io), 60 LD5 (io), 61 LA6 (io), 62 LD6 (io), 63 LA7 (io), 64 VCC (power)

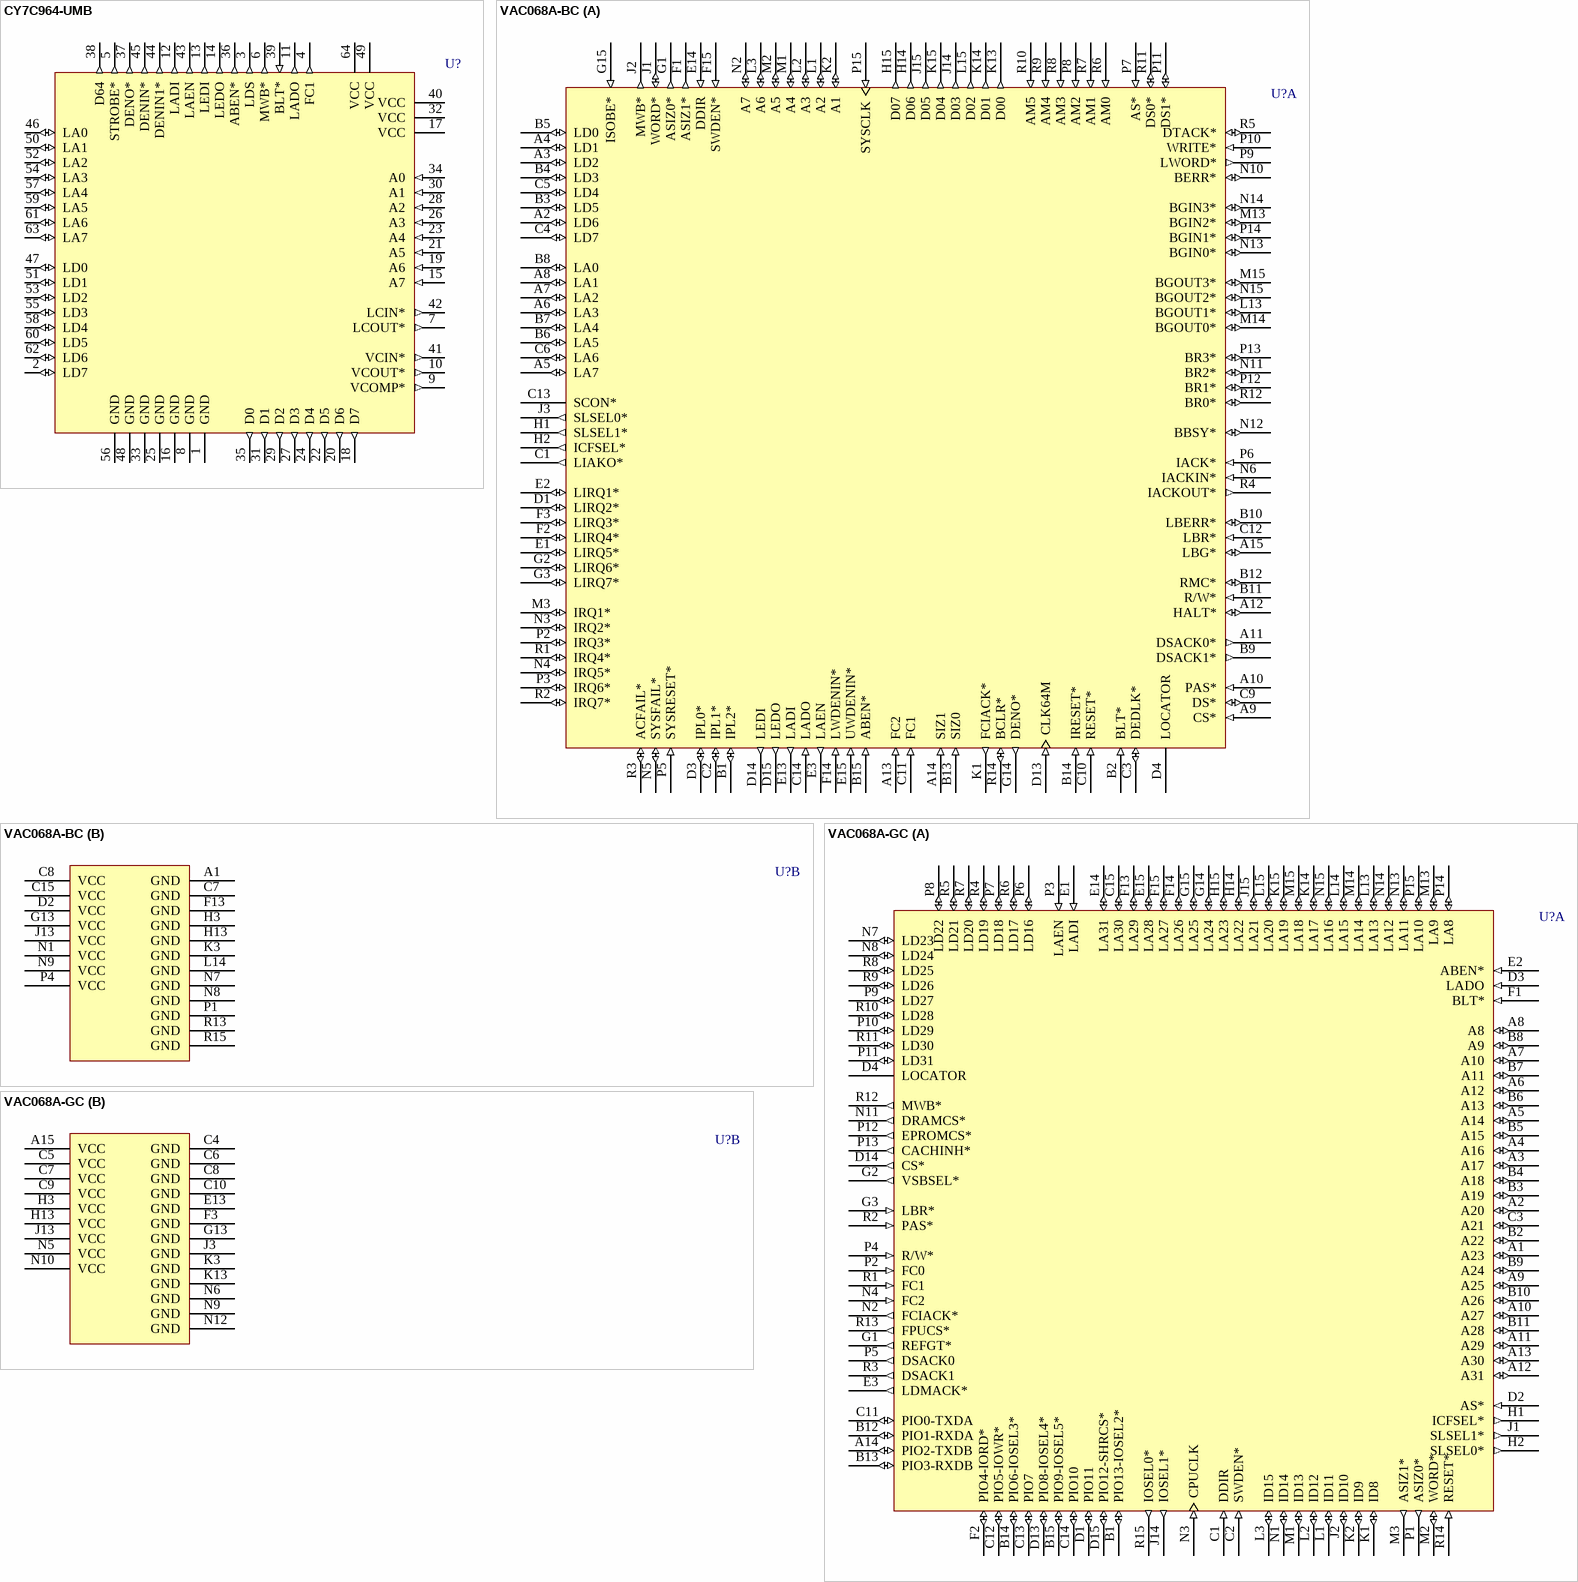
[diagram p2: symbols CY7C964-UMB to VAC068A-GC]

## CY7C964-UMB
designator U?
Bus Interface Logic Circuit; Published: 11-Dec-2002; LatestRevisionDate: 13-Apr-2006; LatestRevisionNote: IPC-7351 Footprint Added.; DatasheetVersion: 4-Dec-1997; PackageVersion: Dec-1997; PackageReference: U65; Publisher: Altium Limited; PackageDescription: 64-Pin Ceramic Cavity Up Quad Flat Pack 0.8 mm Pitch; ComponentLink1Description: Manufacturer Link; ComponentLink1URL: http://www.cypress.com/
footprint U65_N (QFP, 64-Leads, Body 14x14mm, Pitch 0.8mm, IPC Medium Density)
footprint U65_L (QFP, 64-Leads, Body 14x14mm, Pitch 0.8mm, IPC High Density)
footprint U65_M (QFP, 64-Leads, Body 14x14mm, Pitch 0.8mm, IPC Low Density)
3D model CY7C964-U65 (64-Pin Ceramic Cavity Up Quad Flat Pack 0.8 mm Pitch)
pins: 1 GND (power), 2 LD7 (io), 3 LDS (out), 4 FC1 (out), 5 STROBE* (out), 6 MWB* (out), 7 LCOUT* (out), 8 GND (power), 9 VCOMP* (out), 10 VCOUT* (out), 11 LADO (out), 12 LADI (out), 13 LEDI (out), 14 LEDO (out), 15 A7 (in), 16 GND (power), 17 VCC (power), 18 D7 (out), 19 A6 (in), 20 D6 (out), 21 A5 (in), 22 D5 (out), 23 A4 (in), 24 D4 (out), 25 GND (power), 26 A3 (in), 27 D3 (out), 28 A2 (in), 29 D2 (out), 30 A1 (in), 31 D1 (out), 32 VCC (power), 33 GND (power), 34 A0 (in), 35 D0 (out), 36 ABEN* (out), 37 DENO* (out), 38 D64 (out), 39 BLT* (in), 40 VCC (power), 41 VCIN* (out), 42 LCIN* (out), 43 LAEN (out), 44 DENIN1* (out), 45 DENIN* (out), 46 LA0 (io), 47 LD0 (io), 48 GND (power), 49 VCC (power), 50 LA1 (io), 51 LD1 (io), 52 LA2 (io), 53 LD2 (io), 54 LA3 (io), 55 LD3 (io), 56 GND (power), 57 LA4 (io), 58 LD4 (io), 59 LA5 (io), 60 LD5 (io), 61 LA6 (io), 62 LD6 (io), 63 LA7 (io), 64 VCC (power)

## VAC068A-BC
designator U?
VMEbus Address Controller; Published: 11-Dec-2002; LatestRevisionDate: 04-Mar-2005; LatestRevisionNote: Stylized 3D Model Added.; DatasheetVersion: 23-Jul-1997; PackageVersion: Jul-1997; PackageReference: B144; Publisher: Altium Limited; PackageDescription: 145-Pin Pin Grid Array 2.54 mm Pitch; ComponentLink1Description: Manufacturer Link; ComponentLink1URL: http://www.cypress.com/
footprint B144 (PGA, 145-Leads, Body 38.8x38.8mm, Pitch 2.54mm)
3D model VAC068A-B144 (145-Pin Pin Grid Array 2.54 mm Pitch)
part A pins: A2 LD6 (io), A3 LD2 (io), A4 LD1 (io), A5 LA7 (io), A6 LA3 (io), A7 LA2 (io), A8 LA1 (io), A9 CS* (in), A10 PAS* (in), A11 DSACK0* (out), A12 HALT* (io), A13 FC2 (in), A14 SIZ1 (in), A15 LBG* (io), B1 IPL2* (io), B2 BLT* (in), B3 LD5 (io), B4 LD3 (io), B5 LD0 (io), B6 LA5 (io), B7 LA4 (io), B8 LA0 (io), B9 DSACK1* (out), B10 LBERR* (io), B11 R/W* (in), B12 RMC* (io), B13 SIZ0 (in), B14 IRESET* (in), B15 ABEN* (in), C1 LIAKO* (out), C2 IPL1* (io), C3 DEDLK* (io), C4 LD7 (io), C5 LD4 (io), C6 LA6 (io), C9 DS* (io), C10 RESET* (in), C11 FC1 (in), C12 LBR* (in), C13 SCON*, C14 LADO (in), D1 LIRQ2* (io), D3 IPL0* (io), D4 LOCATOR, D13 CLK64M (in), D14 LEDI (out), D15 LEDO (out), E1 LIRQ5* (io), E2 LIRQ1* (io), E3 LAEN (out), E13 LADI (out), E14 DDIR (in), E15 UWDENIN* (in), F1 ASIZ1* (out), F2 LIRQ4* (io), F3 LIRQ3* (io), F14 LWDENIN* (in), F15 SWDEN* (in), G1 ASIZ0* (out), G2 LIRQ6* (io), G3 LIRQ7* (io), G14 DENO* (out), G15 ISOBE* (in), H1 SLSEL1* (out), H2 ICFSEL* (out), H14 D06 (out), H15 D07 (out), J1 WORD* (io), J2 MWB* (out), J3 SLSEL0* (out), J14 D03 (out), J15 D05 (out), K1 FCIACK* (out), K2 A1 (io), K13 D00 (out), K14 D01 (out), K15 D04 (out), L1 A2 (io), L2 A3 (io), L3 A6 (io), L13 BGOUT1* (io), L15 D02 (out), M1 A4 (io), M2 A5 (io), M3 IRQ1* (io), M13 BGIN2* (io), M14 BGOUT0* (io), M15 BGOUT3* (io), N2 A7 (io), N3 IRQ2* (io), N4 IRQ5* (io), N5 SYSFAIL* (io), N6 IACKIN* (in), N10 BERR* (io), N11 BR2* (io), N12 BBSY* (io), N13 BGIN0* (io), N14 BGIN3* (io), N15 BGOUT2* (io), P2 IRQ3* (io), P3 IRQ6* (io), P5 SYSRESET* (in), P6 IACK* (in), P7 AS* (in), P8 AM2 (in), P9 LWORD* (out), P10 WRITE* (in), P11 DS1* (io), P12 BR1* (io), P13 BR3* (io), P14 BGIN1* (io), P15 SYSCLK (in), R1 IRQ4* (io), R2 IRQ7* (io), R3 ACFAIL* (io), R4 IACKOUT* (out), R5 DTACK* (io), R6 AM0 (in), R7 AM1 (in), R8 AM3 (in), R9 AM4 (in), R10 AM5 (in), R11 DS0* (io), R12 BR0* (io), R14 BCLR* (io)
part B pins: A1 GND (power), C7 GND (power), C8 VCC (power), C15 VCC (power), D2 VCC (power), F13 GND (power), G13 VCC (power), H3 GND (power), H13 GND (power), J13 VCC (power), K3 GND (power), L14 GND (power), N1 VCC (power), N7 GND (power), N8 GND (power), N9 VCC (power), P1 GND (power), P4 VCC (power), R13 GND (power), R15 GND (power)

## VAC068A-GC
designator U?
VMEbus Address Controller; Published: 11-Dec-2002; LatestRevisionDate: 04-Mar-2005; LatestRevisionNote: Stylized 3D Model Added.; DatasheetVersion: 23-Jul-1997; PackageVersion: Jul-1997; PackageReference: G145; Publisher: Altium Limited; PackageDescription: 145-Pin Pin Grid Array 2.54 mm Pitch; ComponentLink1Description: Manufacturer Link; ComponentLink1URL: http://www.cypress.com/
footprint G145 (PGA, 145-Leads, Body 40x40mm, Pitch 2.54mm)
3D model VAC068A-G145 (145-Pin Pin Grid Array 2.54 mm Pitch)
part A pins: A1 A23 (io), A2 A20 (io), A3 A17 (io), A4 A16 (io), A5 A14 (io), A6 A12 (io), A7 A10 (io), A8 (io), A9 A25 (io), A10 A27 (io), A11 A29 (io), A12 A31 (io), A13 A30 (io), A14 PIO2-TXDB (io), B1 PIO13-IOSEL2* (io), B2 A22 (io), B3 A19 (io), B4 A18 (io), B5 A15 (io), B6 A13 (io), B7 A11 (io), B8 A9 (io), B9 A24 (io), B10 A26 (io), B11 A28 (io), B12 PIO1-RXDA (io), B13 PIO3-RXDB (io), B14 PIO6-IOSEL3* (io), B15 PIO9-IOSEL5* (io), C1 DDIR (in), C2 SWDEN* (in), C3 A21 (io), C11 PIO0-TXDA (io), C12 PIO5-IOWR* (io), C13 PIO7 (io), C14 PIO10 (io), C15 LA30 (io), D1 PIO11 (io), D2 AS* (in), D3 LADO (in), D4 LOCATOR, D13 PIO8-IOSEL4* (io), D14 CS* (out), D15 PIO12-SHRCS* (io), E1 LADI (in), E2 ABEN* (in), E3 LDMACK* (out), E14 LA31 (io), E15 LA28 (io), F1 BLT* (in), F2 PIO4-IORD* (io), F13 LA29 (io), F14 LA26 (io), F15 LA27 (io), G1 REFGT* (out), G2 VSBSEL* (out), G3 LBR* (in), G14 LA24 (io), G15 LA25 (io), H1 ICFSEL* (out), H2 SLSEL0* (out), H14 LA22 (io), H15 LA23 (io), J1 SLSEL1* (out), J2 ID10 (io), J14 IOSEL1* (out), J15 LA21 (io), K1 ID8 (io), K2 ID9 (io), K14 LA17 (io), K15 LA19 (io), L1 ID11 (io), L2 ID12 (io), L3 ID15 (io), L13 LA13 (io), L14 LA15 (io), L15 LA20 (io), M1 ID13 (io), M2 WORD* (io), M3 ASIZ1* (out), M13 LA9 (io), M14 LA14 (io), M15 LA18 (io), N1 ID14 (io), N2 FCIACK* (out), N3 CPUCLK (in), N4 FC2 (in), N7 LD23 (io), N8 LD24 (io), N11 DRAMCS* (out), N13 LA11 (io), N14 LA12 (io), N15 LA16 (io), P1 ASIZ0* (out), P2 FC0 (in), P3 LAEN (in), P4 R/W* (in), P5 DSACK0 (out), P6 LD16 (io), P7 LD18 (io), P8 LD22 (io), P9 LD27 (io), P10 LD29 (io), P11 LD31 (io), P12 EPROMCS* (out), P13 CACHINH* (out), P14 LA8 (io), P15 LA10 (io), R1 FC1 (in), R2 PAS* (in), R3 DSACK1 (out), R4 LD19 (io), R5 LD21 (io), R6 LD17 (io), R7 LD20 (io), R8 LD25 (io), R9 LD26 (io), R10 LD28 (io), R11 LD30 (io), R12 MWB* (out), R13 FPUCS* (out), R14 RESET* (in), R15 IOSEL0* (out)
part B pins: A15 VCC (power), C4 GND (power), C5 VCC (power), C6 GND (power), C7 VCC (power), C8 GND (power), C9 VCC (power), C10 GND (power), E13 GND (power), F3 GND (power), G13 GND (power), H3 VCC (power), H13 VCC (power), J3 GND (power), J13 VCC (power), K3 GND (power), K13 GND (power), N5 VCC (power), N6 GND (power), N9 GND (power), N10 VCC (power), N12 GND (power)

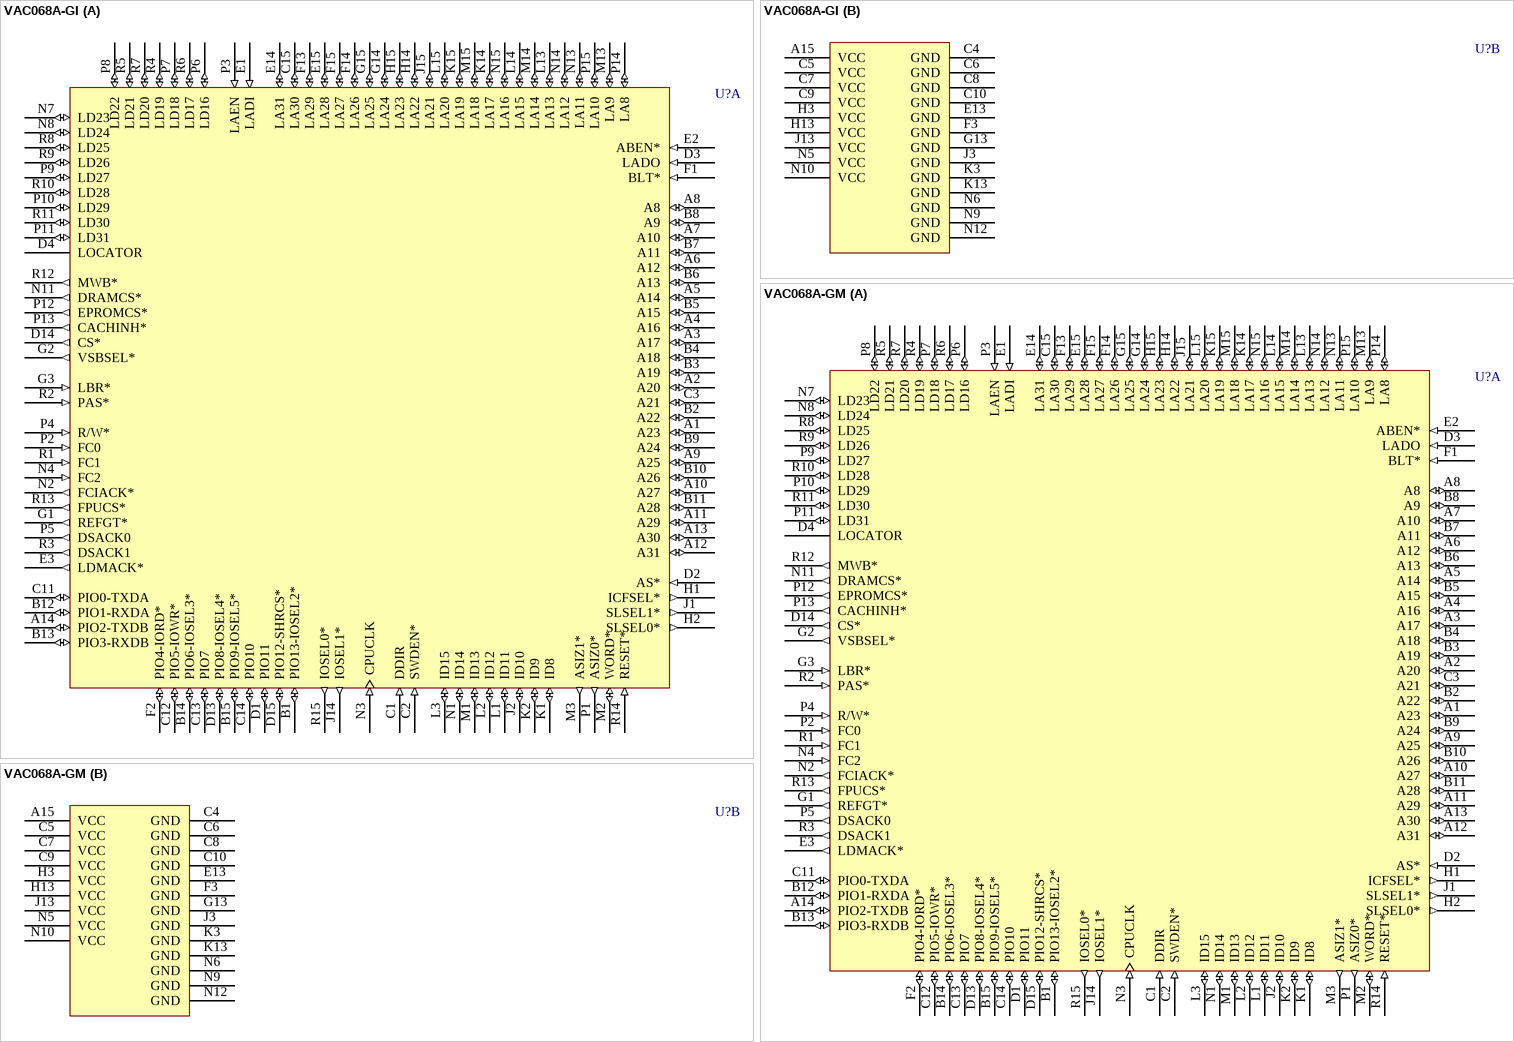
[diagram p3: symbols VAC068A-GI to VAC068A-GM]

## VAC068A-GI
designator U?
VMEbus Address Controller; Published: 11-Dec-2002; LatestRevisionDate: 04-Mar-2005; LatestRevisionNote: Stylized 3D Model Added.; DatasheetVersion: 23-Jul-1997; PackageVersion: Jul-1997; PackageReference: G145; Publisher: Altium Limited; PackageDescription: 145-Pin Pin Grid Array 2.54 mm Pitch; ComponentLink1Description: Manufacturer Link; ComponentLink1URL: http://www.cypress.com/
footprint G145 (PGA, 145-Leads, Body 40x40mm, Pitch 2.54mm)
3D model VAC068A-G145 (145-Pin Pin Grid Array 2.54 mm Pitch)
part A pins: A1 A23 (io), A2 A20 (io), A3 A17 (io), A4 A16 (io), A5 A14 (io), A6 A12 (io), A7 A10 (io), A8 (io), A9 A25 (io), A10 A27 (io), A11 A29 (io), A12 A31 (io), A13 A30 (io), A14 PIO2-TXDB (io), B1 PIO13-IOSEL2* (io), B2 A22 (io), B3 A19 (io), B4 A18 (io), B5 A15 (io), B6 A13 (io), B7 A11 (io), B8 A9 (io), B9 A24 (io), B10 A26 (io), B11 A28 (io), B12 PIO1-RXDA (io), B13 PIO3-RXDB (io), B14 PIO6-IOSEL3* (io), B15 PIO9-IOSEL5* (io), C1 DDIR (in), C2 SWDEN* (in), C3 A21 (io), C11 PIO0-TXDA (io), C12 PIO5-IOWR* (io), C13 PIO7 (io), C14 PIO10 (io), C15 LA30 (io), D1 PIO11 (io), D2 AS* (in), D3 LADO (in), D4 LOCATOR, D13 PIO8-IOSEL4* (io), D14 CS* (out), D15 PIO12-SHRCS* (io), E1 LADI (in), E2 ABEN* (in), E3 LDMACK* (out), E14 LA31 (io), E15 LA28 (io), F1 BLT* (in), F2 PIO4-IORD* (io), F13 LA29 (io), F14 LA26 (io), F15 LA27 (io), G1 REFGT* (out), G2 VSBSEL* (out), G3 LBR* (in), G14 LA24 (io), G15 LA25 (io), H1 ICFSEL* (out), H2 SLSEL0* (out), H14 LA22 (io), H15 LA23 (io), J1 SLSEL1* (out), J2 ID10 (io), J14 IOSEL1* (out), J15 LA21 (io), K1 ID8 (io), K2 ID9 (io), K14 LA17 (io), K15 LA19 (io), L1 ID11 (io), L2 ID12 (io), L3 ID15 (io), L13 LA13 (io), L14 LA15 (io), L15 LA20 (io), M1 ID13 (io), M2 WORD* (io), M3 ASIZ1* (out), M13 LA9 (io), M14 LA14 (io), M15 LA18 (io), N1 ID14 (io), N2 FCIACK* (out), N3 CPUCLK (in), N4 FC2 (in), N7 LD23 (io), N8 LD24 (io), N11 DRAMCS* (out), N13 LA11 (io), N14 LA12 (io), N15 LA16 (io), P1 ASIZ0* (out), P2 FC0 (in), P3 LAEN (in), P4 R/W* (in), P5 DSACK0 (out), P6 LD16 (io), P7 LD18 (io), P8 LD22 (io), P9 LD27 (io), P10 LD29 (io), P11 LD31 (io), P12 EPROMCS* (out), P13 CACHINH* (out), P14 LA8 (io), P15 LA10 (io), R1 FC1 (in), R2 PAS* (in), R3 DSACK1 (out), R4 LD19 (io), R5 LD21 (io), R6 LD17 (io), R7 LD20 (io), R8 LD25 (io), R9 LD26 (io), R10 LD28 (io), R11 LD30 (io), R12 MWB* (out), R13 FPUCS* (out), R14 RESET* (in), R15 IOSEL0* (out)
part B pins: A15 VCC (power), C4 GND (power), C5 VCC (power), C6 GND (power), C7 VCC (power), C8 GND (power), C9 VCC (power), C10 GND (power), E13 GND (power), F3 GND (power), G13 GND (power), H3 VCC (power), H13 VCC (power), J3 GND (power), J13 VCC (power), K3 GND (power), K13 GND (power), N5 VCC (power), N6 GND (power), N9 GND (power), N10 VCC (power), N12 GND (power)

## VAC068A-GM
designator U?
VMEbus Address Controller; Published: 11-Dec-2002; LatestRevisionDate: 04-Mar-2005; LatestRevisionNote: Stylized 3D Model Added.; DatasheetVersion: 23-Jul-1997; PackageVersion: Jul-1997; PackageReference: G145; Publisher: Altium Limited; PackageDescription: 145-Pin Pin Grid Array 2.54 mm Pitch; ComponentLink1Description: Manufacturer Link; ComponentLink1URL: http://www.cypress.com/
footprint G145 (PGA, 145-Leads, Body 40x40mm, Pitch 2.54mm)
3D model VAC068A-G145 (145-Pin Pin Grid Array 2.54 mm Pitch)
part A pins: A1 A23 (io), A2 A20 (io), A3 A17 (io), A4 A16 (io), A5 A14 (io), A6 A12 (io), A7 A10 (io), A8 (io), A9 A25 (io), A10 A27 (io), A11 A29 (io), A12 A31 (io), A13 A30 (io), A14 PIO2-TXDB (io), B1 PIO13-IOSEL2* (io), B2 A22 (io), B3 A19 (io), B4 A18 (io), B5 A15 (io), B6 A13 (io), B7 A11 (io), B8 A9 (io), B9 A24 (io), B10 A26 (io), B11 A28 (io), B12 PIO1-RXDA (io), B13 PIO3-RXDB (io), B14 PIO6-IOSEL3* (io), B15 PIO9-IOSEL5* (io), C1 DDIR (in), C2 SWDEN* (in), C3 A21 (io), C11 PIO0-TXDA (io), C12 PIO5-IOWR* (io), C13 PIO7 (io), C14 PIO10 (io), C15 LA30 (io), D1 PIO11 (io), D2 AS* (in), D3 LADO (in), D4 LOCATOR, D13 PIO8-IOSEL4* (io), D14 CS* (out), D15 PIO12-SHRCS* (io), E1 LADI (in), E2 ABEN* (in), E3 LDMACK* (out), E14 LA31 (io), E15 LA28 (io), F1 BLT* (in), F2 PIO4-IORD* (io), F13 LA29 (io), F14 LA26 (io), F15 LA27 (io), G1 REFGT* (out), G2 VSBSEL* (out), G3 LBR* (in), G14 LA24 (io), G15 LA25 (io), H1 ICFSEL* (out), H2 SLSEL0* (out), H14 LA22 (io), H15 LA23 (io), J1 SLSEL1* (out), J2 ID10 (io), J14 IOSEL1* (out), J15 LA21 (io), K1 ID8 (io), K2 ID9 (io), K14 LA17 (io), K15 LA19 (io), L1 ID11 (io), L2 ID12 (io), L3 ID15 (io), L13 LA13 (io), L14 LA15 (io), L15 LA20 (io), M1 ID13 (io), M2 WORD* (io), M3 ASIZ1* (out), M13 LA9 (io), M14 LA14 (io), M15 LA18 (io), N1 ID14 (io), N2 FCIACK* (out), N3 CPUCLK (in), N4 FC2 (in), N7 LD23 (io), N8 LD24 (io), N11 DRAMCS* (out), N13 LA11 (io), N14 LA12 (io), N15 LA16 (io), P1 ASIZ0* (out), P2 FC0 (in), P3 LAEN (in), P4 R/W* (in), P5 DSACK0 (out), P6 LD16 (io), P7 LD18 (io), P8 LD22 (io), P9 LD27 (io), P10 LD29 (io), P11 LD31 (io), P12 EPROMCS* (out), P13 CACHINH* (out), P14 LA8 (io), P15 LA10 (io), R1 FC1 (in), R2 PAS* (in), R3 DSACK1 (out), R4 LD19 (io), R5 LD21 (io), R6 LD17 (io), R7 LD20 (io), R8 LD25 (io), R9 LD26 (io), R10 LD28 (io), R11 LD30 (io), R12 MWB* (out), R13 FPUCS* (out), R14 RESET* (in), R15 IOSEL0* (out)
part B pins: A15 VCC (power), C4 GND (power), C5 VCC (power), C6 GND (power), C7 VCC (power), C8 GND (power), C9 VCC (power), C10 GND (power), E13 GND (power), F3 GND (power), G13 GND (power), H3 VCC (power), H13 VCC (power), J3 GND (power), J13 VCC (power), K3 GND (power), K13 GND (power), N5 VCC (power), N6 GND (power), N9 GND (power), N10 VCC (power), N12 GND (power)

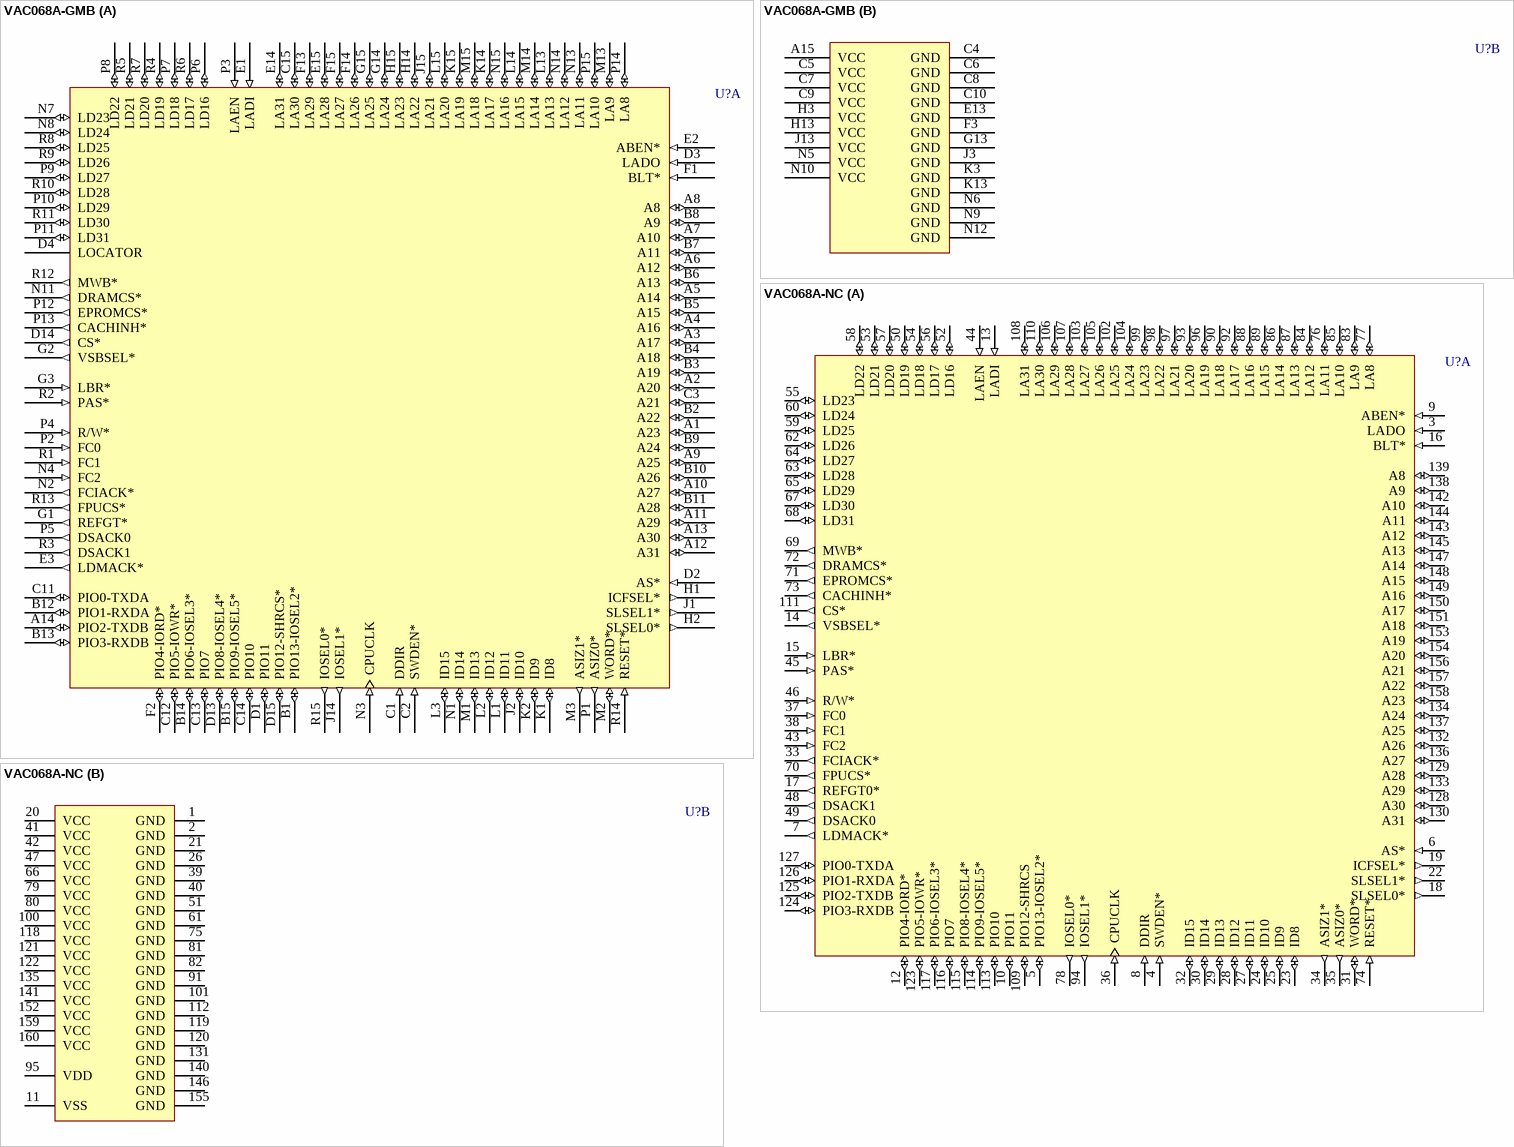
[diagram p4: symbols VAC068A-GMB to VAC068A-NC]

## VAC068A-GMB
designator U?
VMEbus Address Controller; Published: 11-Dec-2002; LatestRevisionDate: 04-Mar-2005; LatestRevisionNote: Stylized 3D Model Added.; DatasheetVersion: 23-Jul-1997; PackageVersion: Jul-1997; PackageReference: G145; Publisher: Altium Limited; PackageDescription: 145-Pin Pin Grid Array 2.54 mm Pitch; ComponentLink1Description: Manufacturer Link; ComponentLink1URL: http://www.cypress.com/
footprint G145 (PGA, 145-Leads, Body 40x40mm, Pitch 2.54mm)
3D model VAC068A-G145 (145-Pin Pin Grid Array 2.54 mm Pitch)
part A pins: A1 A23 (io), A2 A20 (io), A3 A17 (io), A4 A16 (io), A5 A14 (io), A6 A12 (io), A7 A10 (io), A8 (io), A9 A25 (io), A10 A27 (io), A11 A29 (io), A12 A31 (io), A13 A30 (io), A14 PIO2-TXDB (io), B1 PIO13-IOSEL2* (io), B2 A22 (io), B3 A19 (io), B4 A18 (io), B5 A15 (io), B6 A13 (io), B7 A11 (io), B8 A9 (io), B9 A24 (io), B10 A26 (io), B11 A28 (io), B12 PIO1-RXDA (io), B13 PIO3-RXDB (io), B14 PIO6-IOSEL3* (io), B15 PIO9-IOSEL5* (io), C1 DDIR (in), C2 SWDEN* (in), C3 A21 (io), C11 PIO0-TXDA (io), C12 PIO5-IOWR* (io), C13 PIO7 (io), C14 PIO10 (io), C15 LA30 (io), D1 PIO11 (io), D2 AS* (in), D3 LADO (in), D4 LOCATOR, D13 PIO8-IOSEL4* (io), D14 CS* (out), D15 PIO12-SHRCS* (io), E1 LADI (in), E2 ABEN* (in), E3 LDMACK* (out), E14 LA31 (io), E15 LA28 (io), F1 BLT* (in), F2 PIO4-IORD* (io), F13 LA29 (io), F14 LA26 (io), F15 LA27 (io), G1 REFGT* (out), G2 VSBSEL* (out), G3 LBR* (in), G14 LA24 (io), G15 LA25 (io), H1 ICFSEL* (out), H2 SLSEL0* (out), H14 LA22 (io), H15 LA23 (io), J1 SLSEL1* (out), J2 ID10 (io), J14 IOSEL1* (out), J15 LA21 (io), K1 ID8 (io), K2 ID9 (io), K14 LA17 (io), K15 LA19 (io), L1 ID11 (io), L2 ID12 (io), L3 ID15 (io), L13 LA13 (io), L14 LA15 (io), L15 LA20 (io), M1 ID13 (io), M2 WORD* (io), M3 ASIZ1* (out), M13 LA9 (io), M14 LA14 (io), M15 LA18 (io), N1 ID14 (io), N2 FCIACK* (out), N3 CPUCLK (in), N4 FC2 (in), N7 LD23 (io), N8 LD24 (io), N11 DRAMCS* (out), N13 LA11 (io), N14 LA12 (io), N15 LA16 (io), P1 ASIZ0* (out), P2 FC0 (in), P3 LAEN (in), P4 R/W* (in), P5 DSACK0 (out), P6 LD16 (io), P7 LD18 (io), P8 LD22 (io), P9 LD27 (io), P10 LD29 (io), P11 LD31 (io), P12 EPROMCS* (out), P13 CACHINH* (out), P14 LA8 (io), P15 LA10 (io), R1 FC1 (in), R2 PAS* (in), R3 DSACK1 (out), R4 LD19 (io), R5 LD21 (io), R6 LD17 (io), R7 LD20 (io), R8 LD25 (io), R9 LD26 (io), R10 LD28 (io), R11 LD30 (io), R12 MWB* (out), R13 FPUCS* (out), R14 RESET* (in), R15 IOSEL0* (out)
part B pins: A15 VCC (power), C4 GND (power), C5 VCC (power), C6 GND (power), C7 VCC (power), C8 GND (power), C9 VCC (power), C10 GND (power), E13 GND (power), F3 GND (power), G13 GND (power), H3 VCC (power), H13 VCC (power), J3 GND (power), J13 VCC (power), K3 GND (power), K13 GND (power), N5 VCC (power), N6 GND (power), N9 GND (power), N10 VCC (power), N12 GND (power)

## VAC068A-NC
designator U?
VMEbus Address Controller; Published: 11-Dec-2002; LatestRevisionDate: 13-Apr-2006; LatestRevisionNote: IPC-7351 Footprint Added.; DatasheetVersion: 23-Jul-1997; PackageVersion: Mar-2001; PackageReference: N160; Publisher: Altium Limited; PackageDescription: 160-Pin Plastic Quad Flat Pack 0.65 mm Pitch; Code_IPC: QFP65P3120X3120-160; ComponentLink1Description: Manufacturer Link; ComponentLink1URL: http://www.cypress.com/
footprint N160_N (QFP, 160-Leads, Body 28 x 28mm, Pitch 0.65mm, IPC Medium Density)
footprint N160_L (QFP, 160-Leads, Body 28 x 28mm, Pitch 0.65mm, IPC High Density)
footprint N160_M (QFP, 160-Leads, Body 28 x 28mm, Pitch 0.65mm, IPC Low Density)
3D model VAC068A-N160 (160-Pin Plastic Quad Flat Pack 0.65 mm Pitch)
part A pins: 3 LADO (in), 4 SWDEN* (in), 5 PIO13-IOSEL2* (io), 6 AS* (in), 7 LDMACK* (out), 8 DDIR (in), 9 ABEN* (in), 10 PIO11 (io), 12 PIO4-IORD* (io), 13 LADI (in), 14 VSBSEL* (out), 15 LBR* (in), 16 BLT* (in), 17 REFGT0* (out), 18 SLSEL0* (out), 19 ICFSEL* (out), 22 SLSEL1* (out), 23 ID8 (io), 24 ID10 (io), 25 ID9 (io), 27 ID11 (io), 28 ID12 (io), 29 ID13 (io), 30 ID14 (io), 31 WORD* (io), 32 ID15 (io), 33 FCIACK* (out), 34 ASIZ1* (out), 35 ASIZ0* (out), 36 CPUCLK (in), 37 FC0 (in), 38 FC1 (in), 43 FC2 (in), 44 LAEN (in), 45 PAS* (in), 46 R/W* (in), 48 DSACK1 (out), 49 DSACK0 (out), 50 LD19 (io), 52 LD16 (io), 53 LD21 (io), 54 LD18 (io), 55 LD23 (io), 56 LD17 (io), 57 LD20 (io), 58 LD22 (io), 59 LD25 (io), 60 LD24 (io), 62 LD26 (io), 63 LD28 (io), 64 LD27 (io), 65 LD29 (io), 67 LD30 (io), 68 LD31 (io), 69 MWB* (out), 70 FPUCS* (out), 71 EPROMCS* (out), 72 DRAMCS* (out), 73 CACHINH* (out), 74 RESET* (in), 76 LA11 (io), 77 LA8 (io), 78 IOSEL0* (out), 83 LA9 (io), 84 LA12 (io), 85 LA10 (io), 86 LA14 (io), 87 LA13 (io), 88 LA16 (io), 89 LA15 (io), 90 LA18 (io), 92 LA17 (io), 93 LA20 (io), 94 IOSEL1* (out), 96 LA19 (io), 97 LA21 (io), 98 LA22 (io), 99 LA23 (io), 102 LA25 (io), 103 LA27 (io), 104 LA24 (io), 105 LA26 (io), 106 LA29 (io), 107 LA28 (io), 108 LA31 (io), 109 PIO12-SHRCS (io), 110 LA30 (io), 111 CS* (out), 113 PIO10 (io), 114 PIO9-IOSEL5* (io), 115 PIO8-IOSEL4* (io), 116 PIO7 (io), 117 PIO6-IOSEL3* (io), 123 PIO5-IOWR* (io), 124 PIO3-RXDB (io), 125 PIO2-TXDB (io), 126 PIO1-RXDA (io), 127 PIO0-TXDA (io), 128 A30 (io), 129 A28 (io), 130 A31 (io), 132 A26 (io), 133 A29 (io), 134 A24 (io), 136 A27 (io), 137 A25 (io), 138 A9 (io), 139 A8 (io), 142 A10 (io), 143 A12 (io), 144 A11 (io), 145 A13 (io), 147 A14 (io), 148 A15 (io), 149 A16 (io), 150 A17 (io), 151 A18 (io), 153 A19 (io), 154 A20 (io), 156 A21 (io), 157 A22 (io), 158 A23 (io)
part B pins: 1 GND (power), 2 GND (power), 11 VSS (power), 20 VCC (power), 21 GND (power), 26 GND (power), 39 GND (power), 40 GND (power), 41 VCC (power), 42 VCC (power), 47 VCC (power), 51 GND (power), 61 GND (power), 66 VCC (power), 75 GND (power), 79 VCC (power), 80 VCC (power), 81 GND (power), 82 GND (power), 91 GND (power), 95 VDD (power), 100 VCC (power), 101 GND (power), 112 GND (power), 118 VCC (power), 119 GND (power), 120 GND (power), 121 VCC (power), 122 VCC (power), 131 GND (power), 135 VCC (power), 140 GND (power), 141 VCC (power), 146 GND (power), 152 VCC (power), 155 GND (power), 159 VCC (power), 160 VCC (power)

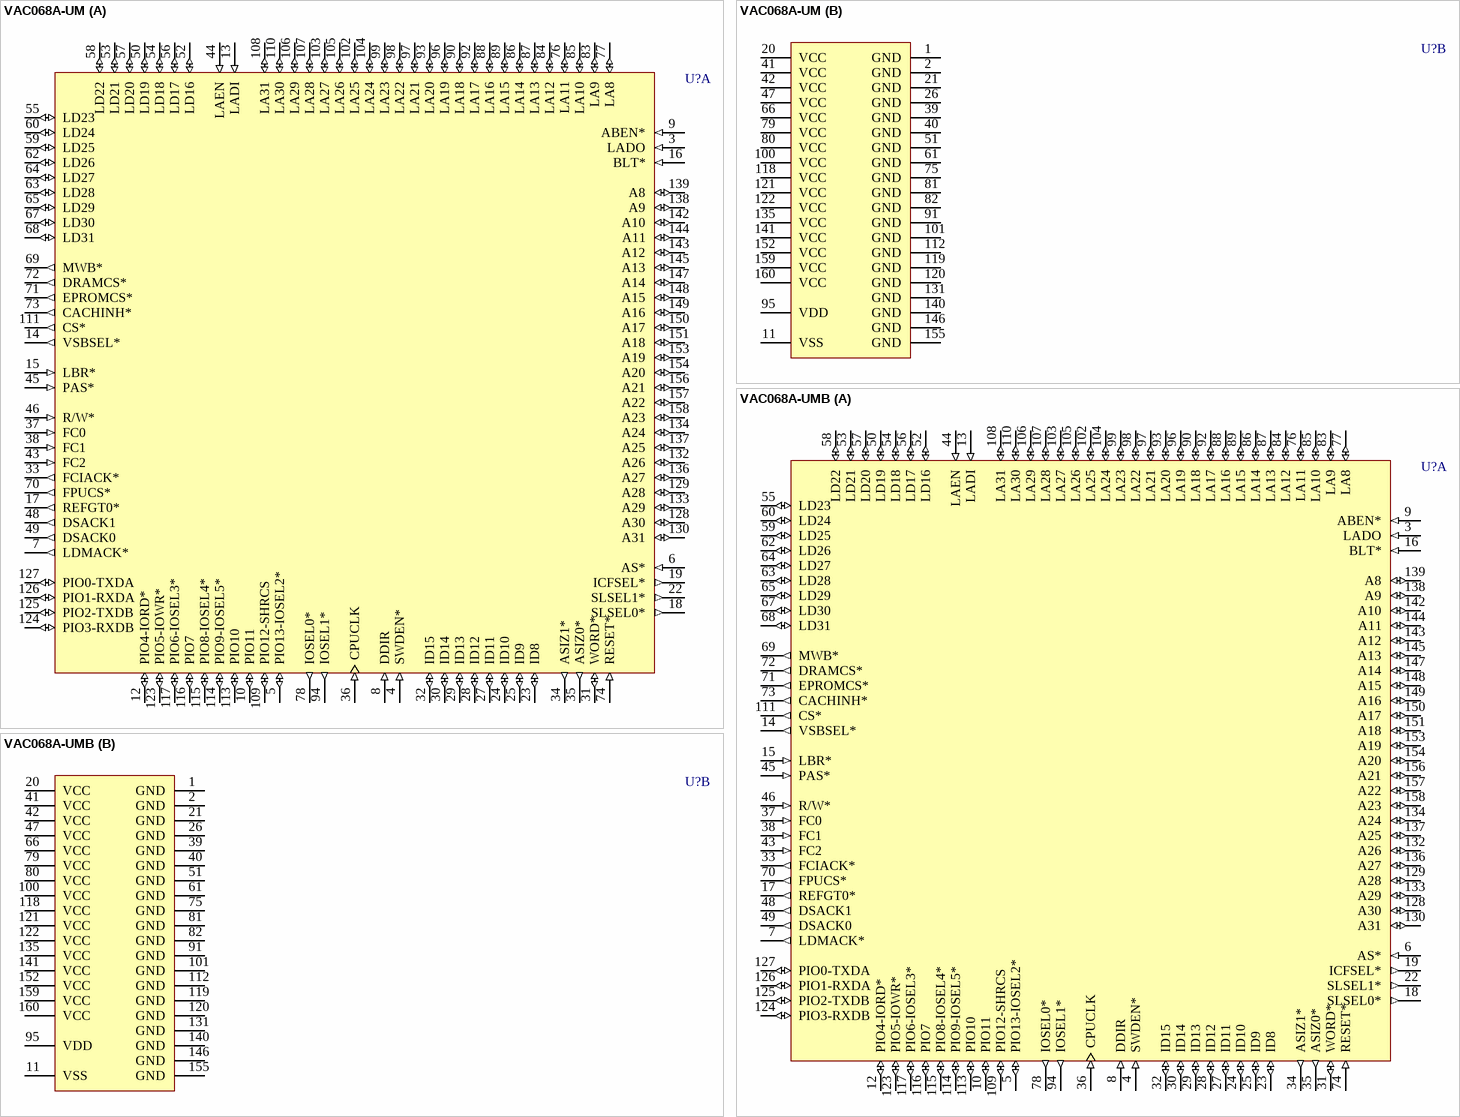
[diagram p5: symbols VAC068A-UM to VAC068A-UMB]

## VAC068A-UM
designator U?
VMEbus Address Controller; Published: 11-Dec-2002; LatestRevisionDate: 13-Apr-2006; LatestRevisionNote: IPC-7351 Footprint Added.; DatasheetVersion: 23-Jul-1997; PackageVersion: Dec-2000; PackageReference: U162; Publisher: Altium Limited; PackageDescription: 160-Pin Ceramic Cavity Up Quad Flat Pack 0.65 mm Pitch; ComponentLink1Description: Manufacturer Link; ComponentLink1URL: http://www.cypress.com/
footprint U162_N (QFP, 160-Leads, Body 28 x 28mm, Pitch 0.65mm, IPC Medium Density)
footprint U162_L (QFP, 160-Leads, Body 28 x 28mm, Pitch 0.65mm, IPC High Density)
footprint U162_M (QFP, 160-Leads, Body 28 x 28mm, Pitch 0.65mm, IPC Low Density)
3D model VAC068A-U162 (160-Pin Ceramic Cavity Up Quad Flat Pack 0.65 mm Pitch)
part A pins: 3 LADO (in), 4 SWDEN* (in), 5 PIO13-IOSEL2* (io), 6 AS* (in), 7 LDMACK* (out), 8 DDIR (in), 9 ABEN* (in), 10 PIO11 (io), 12 PIO4-IORD* (io), 13 LADI (in), 14 VSBSEL* (out), 15 LBR* (in), 16 BLT* (in), 17 REFGT0* (out), 18 SLSEL0* (out), 19 ICFSEL* (out), 22 SLSEL1* (out), 23 ID8 (io), 24 ID10 (io), 25 ID9 (io), 27 ID11 (io), 28 ID12 (io), 29 ID13 (io), 30 ID14 (io), 31 WORD* (io), 32 ID15 (io), 33 FCIACK* (out), 34 ASIZ1* (out), 35 ASIZ0* (out), 36 CPUCLK (in), 37 FC0 (in), 38 FC1 (in), 43 FC2 (in), 44 LAEN (in), 45 PAS* (in), 46 R/W* (in), 48 DSACK1 (out), 49 DSACK0 (out), 50 LD19 (io), 52 LD16 (io), 53 LD21 (io), 54 LD18 (io), 55 LD23 (io), 56 LD17 (io), 57 LD20 (io), 58 LD22 (io), 59 LD25 (io), 60 LD24 (io), 62 LD26 (io), 63 LD28 (io), 64 LD27 (io), 65 LD29 (io), 67 LD30 (io), 68 LD31 (io), 69 MWB* (out), 70 FPUCS* (out), 71 EPROMCS* (out), 72 DRAMCS* (out), 73 CACHINH* (out), 74 RESET* (in), 76 LA11 (io), 77 LA8 (io), 78 IOSEL0* (out), 83 LA9 (io), 84 LA12 (io), 85 LA10 (io), 86 LA14 (io), 87 LA13 (io), 88 LA16 (io), 89 LA15 (io), 90 LA18 (io), 92 LA17 (io), 93 LA20 (io), 94 IOSEL1* (out), 96 LA19 (io), 97 LA21 (io), 98 LA22 (io), 99 LA23 (io), 102 LA25 (io), 103 LA27 (io), 104 LA24 (io), 105 LA26 (io), 106 LA29 (io), 107 LA28 (io), 108 LA31 (io), 109 PIO12-SHRCS (io), 110 LA30 (io), 111 CS* (out), 113 PIO10 (io), 114 PIO9-IOSEL5* (io), 115 PIO8-IOSEL4* (io), 116 PIO7 (io), 117 PIO6-IOSEL3* (io), 123 PIO5-IOWR* (io), 124 PIO3-RXDB (io), 125 PIO2-TXDB (io), 126 PIO1-RXDA (io), 127 PIO0-TXDA (io), 128 A30 (io), 129 A28 (io), 130 A31 (io), 132 A26 (io), 133 A29 (io), 134 A24 (io), 136 A27 (io), 137 A25 (io), 138 A9 (io), 139 A8 (io), 142 A10 (io), 143 A12 (io), 144 A11 (io), 145 A13 (io), 147 A14 (io), 148 A15 (io), 149 A16 (io), 150 A17 (io), 151 A18 (io), 153 A19 (io), 154 A20 (io), 156 A21 (io), 157 A22 (io), 158 A23 (io)
part B pins: 1 GND (power), 2 GND (power), 11 VSS (power), 20 VCC (power), 21 GND (power), 26 GND (power), 39 GND (power), 40 GND (power), 41 VCC (power), 42 VCC (power), 47 VCC (power), 51 GND (power), 61 GND (power), 66 VCC (power), 75 GND (power), 79 VCC (power), 80 VCC (power), 81 GND (power), 82 GND (power), 91 GND (power), 95 VDD (power), 100 VCC (power), 101 GND (power), 112 GND (power), 118 VCC (power), 119 GND (power), 120 GND (power), 121 VCC (power), 122 VCC (power), 131 GND (power), 135 VCC (power), 140 GND (power), 141 VCC (power), 146 GND (power), 152 VCC (power), 155 GND (power), 159 VCC (power), 160 VCC (power)

## VAC068A-UMB
designator U?
VMEbus Address Controller; Published: 11-Dec-2002; LatestRevisionDate: 13-Apr-2006; LatestRevisionNote: IPC-7351 Footprint Added.; DatasheetVersion: 23-Jul-1997; PackageVersion: Dec-2000; PackageReference: U162; Publisher: Altium Limited; PackageDescription: 160-Pin Ceramic Cavity Up Quad Flat Pack 0.65 mm Pitch; ComponentLink1Description: Manufacturer Link; ComponentLink1URL: http://www.cypress.com/
footprint U162_N (QFP, 160-Leads, Body 28 x 28mm, Pitch 0.65mm, IPC Medium Density)
footprint U162_L (QFP, 160-Leads, Body 28 x 28mm, Pitch 0.65mm, IPC High Density)
footprint U162_M (QFP, 160-Leads, Body 28 x 28mm, Pitch 0.65mm, IPC Low Density)
3D model VAC068A-U162 (160-Pin Ceramic Cavity Up Quad Flat Pack 0.65 mm Pitch)
part A pins: 3 LADO (in), 4 SWDEN* (in), 5 PIO13-IOSEL2* (io), 6 AS* (in), 7 LDMACK* (out), 8 DDIR (in), 9 ABEN* (in), 10 PIO11 (io), 12 PIO4-IORD* (io), 13 LADI (in), 14 VSBSEL* (out), 15 LBR* (in), 16 BLT* (in), 17 REFGT0* (out), 18 SLSEL0* (out), 19 ICFSEL* (out), 22 SLSEL1* (out), 23 ID8 (io), 24 ID10 (io), 25 ID9 (io), 27 ID11 (io), 28 ID12 (io), 29 ID13 (io), 30 ID14 (io), 31 WORD* (io), 32 ID15 (io), 33 FCIACK* (out), 34 ASIZ1* (out), 35 ASIZ0* (out), 36 CPUCLK (in), 37 FC0 (in), 38 FC1 (in), 43 FC2 (in), 44 LAEN (in), 45 PAS* (in), 46 R/W* (in), 48 DSACK1 (out), 49 DSACK0 (out), 50 LD19 (io), 52 LD16 (io), 53 LD21 (io), 54 LD18 (io), 55 LD23 (io), 56 LD17 (io), 57 LD20 (io), 58 LD22 (io), 59 LD25 (io), 60 LD24 (io), 62 LD26 (io), 63 LD28 (io), 64 LD27 (io), 65 LD29 (io), 67 LD30 (io), 68 LD31 (io), 69 MWB* (out), 70 FPUCS* (out), 71 EPROMCS* (out), 72 DRAMCS* (out), 73 CACHINH* (out), 74 RESET* (in), 76 LA11 (io), 77 LA8 (io), 78 IOSEL0* (out), 83 LA9 (io), 84 LA12 (io), 85 LA10 (io), 86 LA14 (io), 87 LA13 (io), 88 LA16 (io), 89 LA15 (io), 90 LA18 (io), 92 LA17 (io), 93 LA20 (io), 94 IOSEL1* (out), 96 LA19 (io), 97 LA21 (io), 98 LA22 (io), 99 LA23 (io), 102 LA25 (io), 103 LA27 (io), 104 LA24 (io), 105 LA26 (io), 106 LA29 (io), 107 LA28 (io), 108 LA31 (io), 109 PIO12-SHRCS (io), 110 LA30 (io), 111 CS* (out), 113 PIO10 (io), 114 PIO9-IOSEL5* (io), 115 PIO8-IOSEL4* (io), 116 PIO7 (io), 117 PIO6-IOSEL3* (io), 123 PIO5-IOWR* (io), 124 PIO3-RXDB (io), 125 PIO2-TXDB (io), 126 PIO1-RXDA (io), 127 PIO0-TXDA (io), 128 A30 (io), 129 A28 (io), 130 A31 (io), 132 A26 (io), 133 A29 (io), 134 A24 (io), 136 A27 (io), 137 A25 (io), 138 A9 (io), 139 A8 (io), 142 A10 (io), 143 A12 (io), 144 A11 (io), 145 A13 (io), 147 A14 (io), 148 A15 (io), 149 A16 (io), 150 A17 (io), 151 A18 (io), 153 A19 (io), 154 A20 (io), 156 A21 (io), 157 A22 (io), 158 A23 (io)
part B pins: 1 GND (power), 2 GND (power), 11 VSS (power), 20 VCC (power), 21 GND (power), 26 GND (power), 39 GND (power), 40 GND (power), 41 VCC (power), 42 VCC (power), 47 VCC (power), 51 GND (power), 61 GND (power), 66 VCC (power), 75 GND (power), 79 VCC (power), 80 VCC (power), 81 GND (power), 82 GND (power), 91 GND (power), 95 VDD (power), 100 VCC (power), 101 GND (power), 112 GND (power), 118 VCC (power), 119 GND (power), 120 GND (power), 121 VCC (power), 122 VCC (power), 131 GND (power), 135 VCC (power), 140 GND (power), 141 VCC (power), 146 GND (power), 152 VCC (power), 155 GND (power), 159 VCC (power), 160 VCC (power)

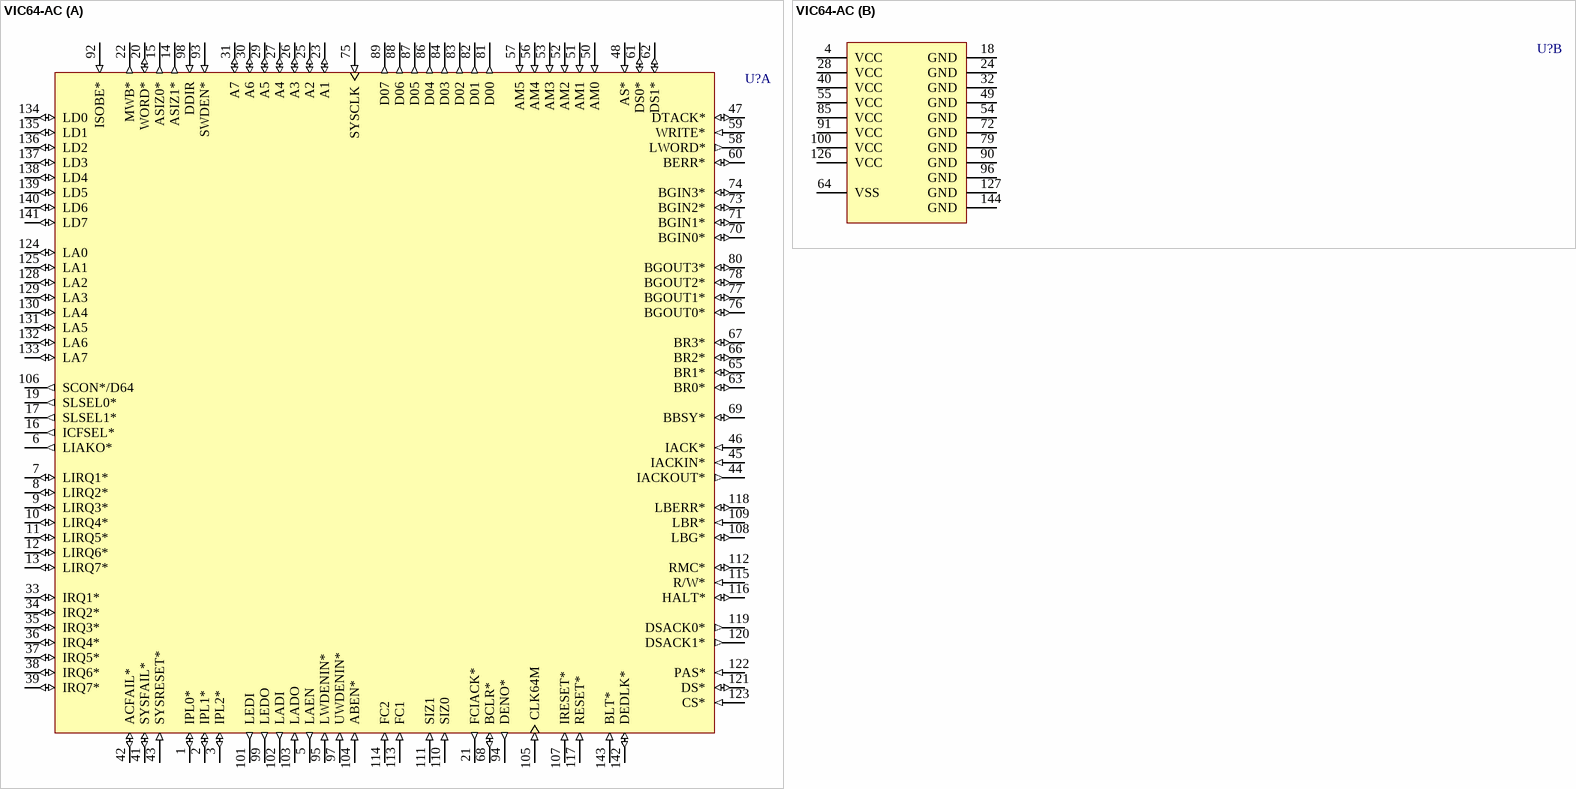
[diagram p6: symbol VIC64-AC]